# Altium schematic symbol library Schem_lib.SchLib: 221 symbols (part 1 of 2)
Pins are listed as number, name and electrical type; pins without a type are passive.

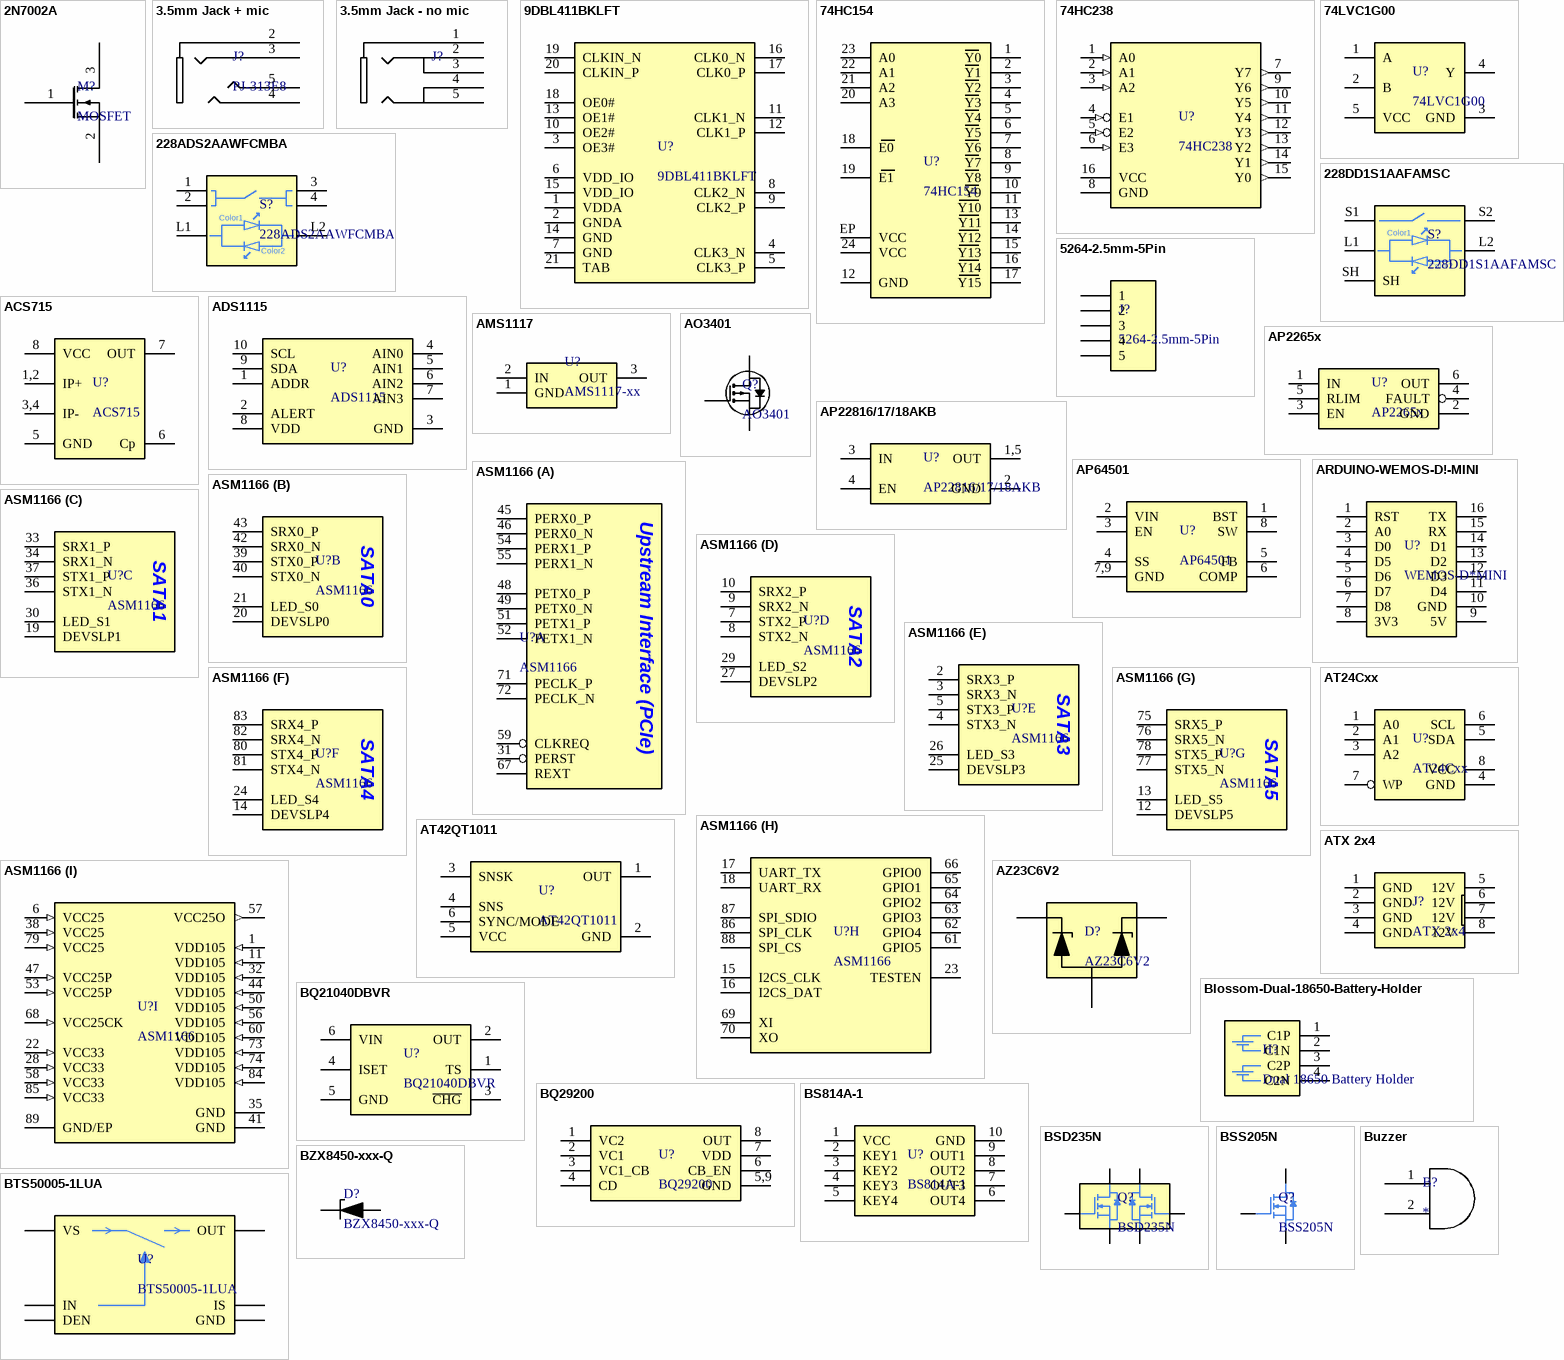
[diagram p0: symbols 2N7002A to BZX8450-xxx-Q]

## 2N7002A
designator M?, comment MOSFET
footprint SOT23
pins: 1, 2, 3

## 3.5mm Jack + mic
designator J?, comment PJ-313E8
footprint PJ-313E8
pins: 2 gg, 3 gg, 4 gg, 5 gg

## 3.5mm Jack - no mic
designator J?  (value not drawn)
footprint Jack 3.5mm
pins: 1 gg, 2 gg, 3 gg, 4 gg, 5 gg

## 9DBL411BKLFT
designator U?
PCIe CLK buffer
footprint QFN50_20T (QFN, 20, 4X4mm, 0.5mm)
pins: 1 VDDA, 2 GNDA, 3 OE3#, 4 CLK3_N, 5 CLK3_P, 6 VDD_IO, 7 GND, 8 CLK2_N, 9 CLK2_P, 10 OE2#, 11 CLK1_N, 12 CLK1_P, 13 OE1#, 14 GND, 15 VDD_IO, 16 CLK0_N, 17 CLK0_P, 18 OE0#, 19 CLKIN_N, 20 CLKIN_P, 21 TAB

## 74HC154
designator U?
4-to-16 Decoder/Demultiplexer
footprint DHVQFN24
pins: 1 Y0, 2 Y1, 3 Y2, 4 Y3, 5 Y4, 6 Y5, 7 Y6, 8 Y7, 9 Y8, 10 Y9, 11 Y10, 12 GND, 13 Y11, 14 Y12, 15 Y13, 16 Y14, 17 Y15, 18 E0, 19 E1, 20 A3, 21 A2, 22 A1, 23 A0, 24 VCC, EP VCC

## 74HC238
designator U?
3 to 8 decoder with 3 enable pins
footprint SO-16
pins: 1 A0 (in), 2 A1 (in), 3 A2 (in), 4 E1 (in), 5 E2 (in), 6 E3 (in), 7 Y7 (out), 8 GND (power), 9 Y6 (out), 10 Y5 (out), 11 Y4 (out), 12 Y3 (out), 13 Y2 (out), 14 Y1 (out), 15 Y0 (out), 16 VCC (power)

## 74LVC1G00
designator U?
SINGLE 2 INPUT POSITIVE NAND GATE
footprint SOT23-5L
pins: 1 A, 2 B, 3 GND, 4 Y, 5 VCC

## 228ADS2AAWFCMBA
designator S?
Tactile Switches 228ADS2AAWF+C style in misty black color with A etching
footprint 228ADS2AAWFCMBA
pins: 1, 2, 3, 4, L1, L2
text: Color1; Color2

## 228DD1S1AAFAMSC
designator S?
Tactile Switches 228DD1S1AAF+A style in misty silver color with C etching
footprint 228DD1S1AAFAMSC
pins: L1, L2, S1, S2, SH
text: Color1; Color2

## 5264-2.5mm-5Pin
designator J?
footprint 5264-2.5mm-5Pin-Vertical
footprint 5264-2.5mm-5Pin-Right
pins: 1, 2, 3, 4, 5

## ACS715
designator U?
Automotive-Grade Linear Current Sensor IC with 2.1 kVRMS Isolation and Enhanced Current Conductor
footprint SOIC-8
pins: 1,2 IP+, 3,4 IP-, 5 GND, 6 Cp, 7 OUT, 8 VCC

## ADS1115
designator U?
16-bit, 860-SPS, 4-channel, delta-sigma ADC with PGA, oscillator, VREF, comparator and I2C
footprint VSSOP-10
pins: 1 ADDR, 2 ALERT, 3 GND, 4 AIN0, 5 AIN1, 6 AIN2, 7 AIN3, 8 VDD, 9 SDA, 10 SCL

## AMS1117
designator U?, comment AMS1117-xx
footprint DPAK_3 (D-PAK (TO-252), 3-Pads, Body 6.2x6.7mm)
pins: 1 GND, 2 IN, 3 OUT

## AO3401
designator Q?
30V 4A P-Channel MOSFET
footprint SOT23
pins: 1 G, 2 S, 3 D

## AP2265x
designator U?
PRECISION ADJUSTABLE CURRENT-LIMITED POWER SWITCHES
footprint SOT26A
pins: 1 IN, 2 GND, 3 EN, 4 FAULT, 5 RLIM, 6 OUT

## AP22816/17/18AKB
designator U?
Single Channel Load Switch SOT-23-5
footprint SOT23-5L
pins: 1,5 OUT, 2 GND, 3 IN, 4 EN

## AP64501
designator U?
3.8V TO 40V INPUT, 5A LOW IQ SYNCHRONOUS BUCK WITH PROGRAMMABLE SOFT-START TIME
footprint SO-8EP
pins: 1 BST, 2 VIN, 3 EN, 4 SS, 5 FB, 6 COMP, 7,9 GND, 8 SW

## ARDUINO-WEMOS-D!-MINI
designator U?, comment WEMOS-D*MINI
Manufacturer_Name: Wemos; Manufacturer_Part_Number: D1 Mini; Datasheet Link: https://wiki.wemos.cc/products:d1:d1_mini
footprint D1-MINI
pins: 1 RST, 2 A0, 3 D0, 4 D5, 5 D6, 6 D7, 7 D8, 8 3V3, 9 5V, 10 GND, 11 D4, 12 D3, 13 D2, 14 D1, 15 RX, 16 TX

## ASM1166
designator U?
PCIe to SATA Host Controller
footprint QFN40-68
part A pins: 31 PERST, 45 PERX0_P, 46 PERX0_N, 48 PETX0_P, 49 PETX0_N, 51 PETX1_P, 52 PETX1_N, 54 PERX1_P, 55 PERX1_N, 59 CLKREQ, 67 REXT "External Reference Resistor with 12.1K to GND for PCIe", 71 PECLK_P, 72 PECLK_N
part B pins: 20 DEVSLP0, 21 LED_S0, 39 STX0_P, 40 STX0_N, 42 SRX0_N, 43 SRX0_P
part C pins: 19 DEVSLP1, 30 LED_S1, 33 SRX1_P, 34 SRX1_N, 36 STX1_N, 37 STX1_P
part D pins: 7 STX2_P, 8 STX2_N, 9 SRX2_N, 10 SRX2_P, 27 DEVSLP2, 29 LED_S2
part E pins: 2 SRX3_P, 3 SRX3_N, 4 STX3_N, 5 STX3_P, 25 DEVSLP3, 26 LED_S3
part F pins: 14 DEVSLP4, 24 LED_S4, 80 STX4_P, 81 STX4_N, 82 SRX4_N, 83 SRX4_P
part G pins: 12 DEVSLP5, 13 LED_S5, 75 SRX5_P, 76 SRX5_N, 77 STX5_N, 78 STX5_P
part H pins: 15 I2CS_CLK, 16 I2CS_DAT, 17 UART_TX, 18 UART_RX, 23 TESTEN, 61 GPIO5, 62 GPIO4, 63 GPIO3, 64 GPIO2, 65 GPIO1, 66 GPIO0, 69 XI, 70 XO, 86 SPI_CLK, 87 SPI_SDIO, 88 SPI_CS
part I pins: 1 VDD105 (in) "Core Logic", 6 VCC25 (in) "PCIe", 11 VDD105 (in) "Core Logic", 22 VCC33 (in) "Digital IO", 28 VCC33 (in) "Digital IO", 32 VDD105 (in) "Core Logic", 35 GND, 38 VCC25 (in) "PCIe", 41 GND, 44 VDD105 (in) "Core Logic", 47 VCC25P (in) "SATA", 50 VDD105 (in) "Core Logic", 53 VCC25P (in) "SATA", 56 VDD105 (in) "Core Logic", 57 VCC25O (out) "LDO Out", 58 VCC33 (in) "Digital IO", 60 VDD105 (in) "Core Logic", 68 VCC25CK (in) "Clocl Gen", 73 VDD105 (in) "Core Logic", 74 VDD105 (in) "Core Logic", 79 VCC25 (in) "PCIe", 84 VDD105 (in) "Core Logic", 85 VCC33 (in) "Digital IO", 89 GND/EP
part A text: Upstream Interface (PCIe)
part B text: SATA0
part C text: SATA1
part D text: SATA2
part E text: SATA3
part F text: SATA4
part G text: SATA5

## AT24Cxx
designator U?
Two-wire Serial / EEPROMs
footprint SOIC-8
pins: 1 A0, 2 A1, 3 A2, 4 GND, 5 SDA, 6 SCL, 7 WP, 8 VCC

## AT42QT1011
designator U?
Touch sensor
footprint SOT23-6L
pins: 1 OUT, 2 GND, 3 SNSK, 4 SNS, 5 VCC, 6 SYNC/MODE

## ATX 2x4
designator J?
footprint ATX_2x4_RA_MOLEX (26013144   Mini-Fit Jr. Header, Dual Row, Right-Angle, with Snap-in Plastic Peg PCB Lock, 8 Circuits, PA Polyamide Nylon 6/6 94V-2, 1.27µm Select Gold (Au) Plating)
footprint ATX_2x4_VERT_MOLEX (26013144   Mini-Fit Jr. Header, Dual Row, Vertical, with Snap-in Plastic Peg PCB Lock, 8 Circuits, PA Polyamide Nylon 6/6 94V-2, 1.27µm Select Gold (Au) Plating)
footprint ATX_2X4_VERT_PEG_TE
pins: 1 GND, 2 GND, 3 GND, 4 GND, 5 12V, 6 12V, 7 12V, 8 12V

## AZ23C6V2
designator D?
6.2V Zener
footprint SOT23
pins: 1, 2, 3

## Blossom-Dual-18650-Battery-Holder
designator H?, comment Dual 18650 Battery Holder
footprint Blossom-1048-Dual-18650-Battery-Holder
pins: 1 C1P, 2 C1N, 3 C2P, 4 C2N

## BQ21040DBVR
designator U?
Battery Management 1-cell 0.8-A Li-ion and Li-polymer battery
footprint SOT23-6L
pins: 1 TS, 2 OUT, 3 ~{CHG}, 4 ISET, 5 GND, 6 VIN

## BQ29200
designator U?
footprint VSON-8pin
pins: 1 VC2, 2 VC1, 3 VC1_CB, 4 CD, 5,9 GND, 6 CB_EN, 7 VDD, 8 OUT

## BS814A-1
designator U?
4-channel capacitive touch driver
footprint MSOP-10
pins: 1 VCC, 2 KEY1, 3 KEY2, 4 KEY3, 5 KEY4, 6 OUT4, 7 OUT3, 8 OUT2, 9 OUT1, 10 GND

## BSD235N
designator Q?
Dual MOSFET N-Channel 20V 950mA
footprint SOT23-6L
pins: 1 S, 2 G, 3 D, 4 S, 5 G, 6 D
1 alternate drawing of the same symbol

## BSS205N
designator Q?
MOSFET N-Channel 20V 2.5A
footprint SOT23
pins: 1 G, 2 S, 3 D

## BTS50005-1LUA
designator U?
57A Power switch with protection and diagnosis
footprint PG-HSOF-8
pins: 1 GND, 2 IS, 3 IN, 4 DEN, 5,6,7,8 OUT, 9 VS

## Buzzer
designator B?
footprint Buzzer-5050
footprint BUZZER-CSPT12A
footprint BUZZER-9x9
pins: 1, 2

## BZX8450-xxx-Q
designator D?
Zener Diodes BZX8450-xxx-Q
footprint SOT23
pins: 1 Anode, 3 Cathode

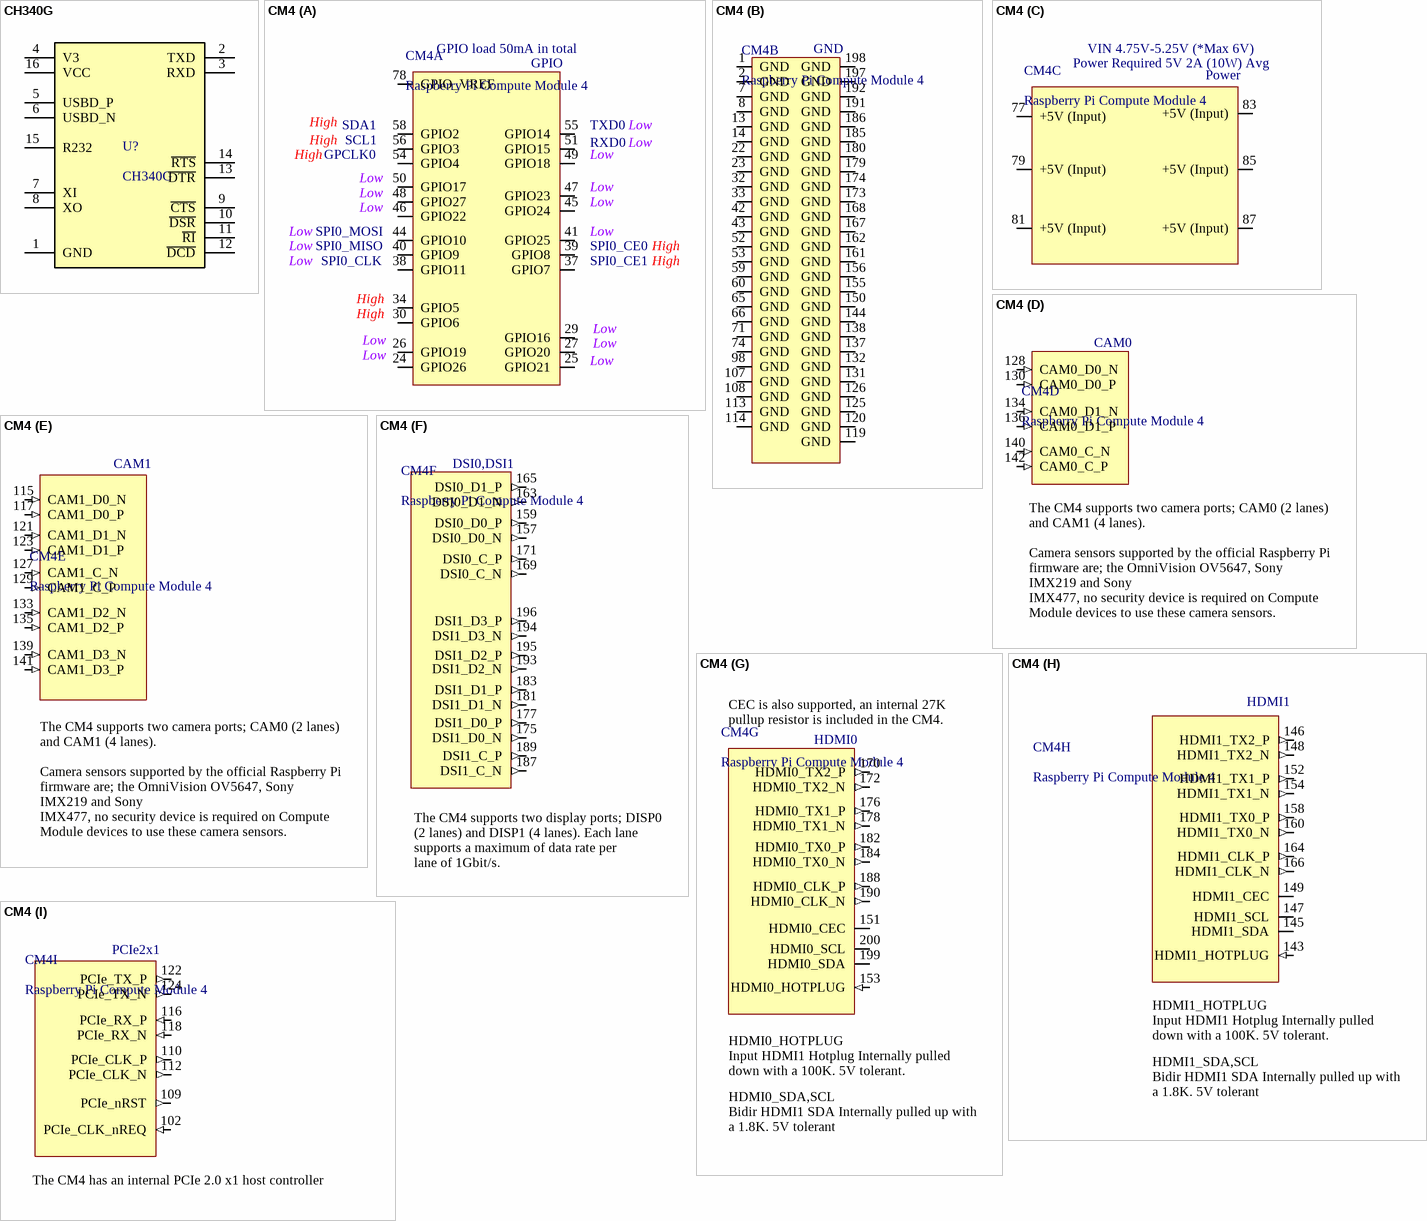
[diagram p1: symbols CH340G to CM4]

## CH340G
designator U?
USB Bus Converter to Serial Port
footprint SOIC-16
pins: 1 GND, 2 TXD, 3 RXD, 4 V3, 5 USBD_P, 6 USBD_N, 7 XI, 8 XO, 9 ~{CTS}, 10 ~{DSR}, 11 ~{RI}, 12 ~{DCD}, 13 ~{DTR}, 14 ~{RTS}, 15 R232, 16 VCC

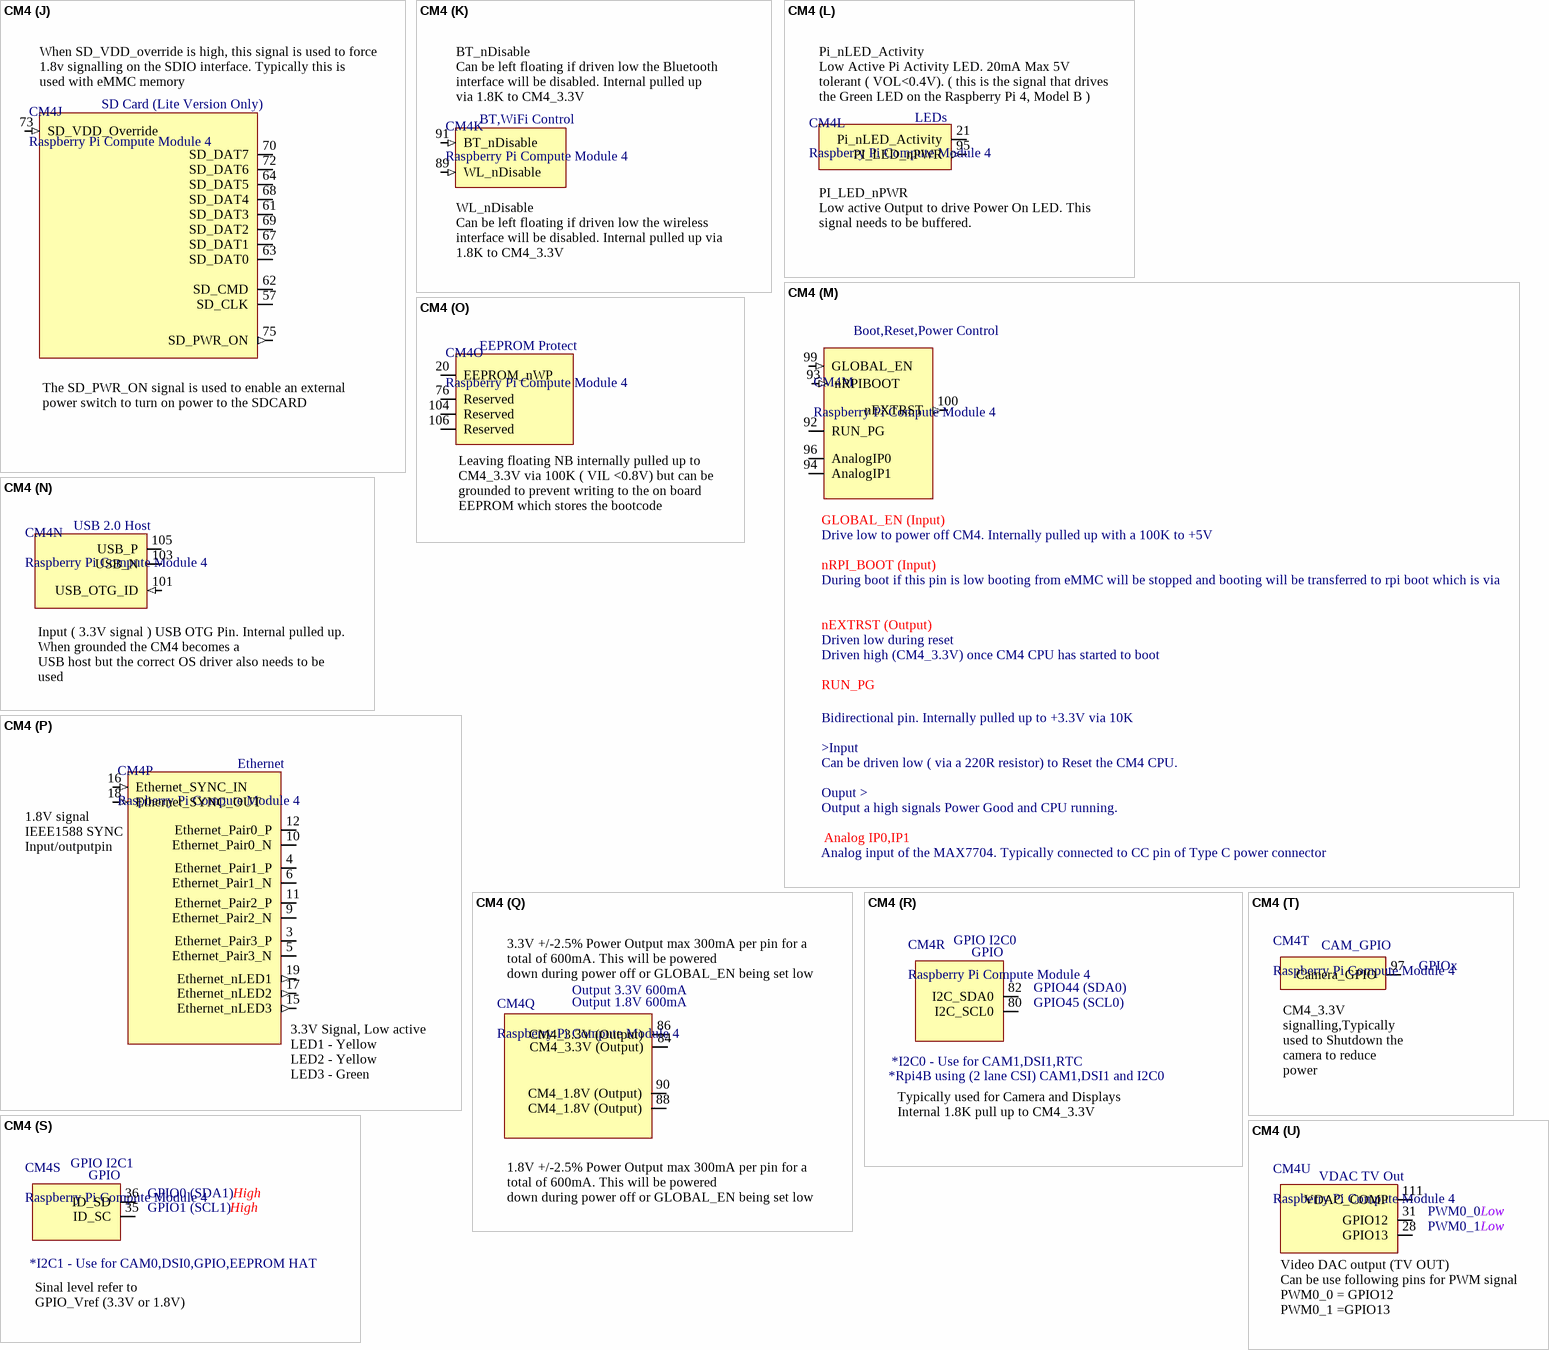
[diagram p2: symbol CM4]

## CM4
designator CM4, comment Raspberry Pi Compute Module 4
Raspberry Pi Compute Module 4 by Amornthep Phunsin
footprint CM4-F40C-100DS-0.4v_1.5mm_0mm (DF40C-100DS-0.4v)
part A pins: 24 GPIO26 "Pin37", 25 GPIO21 "Pin40", 26 GPIO19 "Pin35", 27 GPIO20 "Pin38", 29 GPIO16 "Pin36", 30 GPIO6 "Pin31", 34 GPIO5 "Pin29", 37 GPIO7 "Pin26 SPI0_CE1", 38 GPIO11 "Pin23 SPI0_CLK", 39 GPIO8 "Pin24 SPI0_CE0", 40 GPIO9 "Pin21 SPI0_MISO", 41 GPIO25 "Pin22", 44 GPIO10 "Pin19 SPI0_MOSI", 45 GPIO24 "Pin18", 46 GPIO22 "Pin15", 47 GPIO23 "Pin16", 48 GPIO27 "Pin13", 49 GPIO18 "Pin12", 50 GPIO17 "Pin11", 51 GPIO15 "Pin10 RXD0", 54 GPIO4 "Pin7 GPCLK0", 55 GPIO14 "Pin8 TXD0", 56 GPIO3 "Pin5 SCL1 Internal 1.8K pull up", 58 GPIO2 "Pin3 SDA1 Internal 1.8K pull up", 78 GPIO_VREF (power) "Must be connected to CM4_3.3V ( pins 84 and 86 ) for 3.3V GPIO or CM4_1.8V ( pins 88 and 90) for 1.8V GPIO. This pin cannot be floating or connected to ground"
part B pins: 1 GND (power) "Ground (0V)", 2 GND (power) "Ground (0V)", 7 GND (power) "Ground (0V)", 8 GND (power) "Ground (0V)", 13 GND (power) "Ground (0V)", 14 GND (power) "Ground (0V)", 22 GND (power) "Ground (0V)", 23 GND (power) "Ground (0V)", 32 GND (power) "Ground (0V)", 33 GND (power) "Ground (0V)", 42 GND (power) "Ground (0V)", 43 GND (power) "Ground (0V)", 52 GND (power) "Ground (0V)", 53 GND (power) "Ground (0V)", 59 GND (power) "Ground (0V)", 60 GND (power) "Ground (0V)", 65 GND (power) "Ground (0V)", 66 GND (power) "Ground (0V)", 71 GND (power) "Ground (0V)", 74 GND (power) "Ground (0V)", 98 GND (power) "Ground (0V)", 107 GND (power) "Ground (0V)", 108 GND (power) "Ground (0V)", 113 GND (power) "Ground (0V)", 114 GND (power) "Ground (0V)", 119 GND (power) "Ground (0V)", 120 GND (power) "Ground (0V)", 125 GND (power) "Ground (0V)", 126 GND (power) "Ground (0V)", 131 GND (power) "Ground (0V)", 132 GND (power) "Ground (0V)", 137 GND (power) "Ground (0V)", 138 GND (power) "Ground (0V)", 144 GND (power) "Ground (0V)", 150 GND (power) "Ground (0V)", 155 GND (power) "Ground (0V)", 156 GND (power) "Ground (0V)", 161 GND (power) "Ground (0V)", 162 GND (power) "Ground (0V)", 167 GND (power) "Ground (0V)", 168 GND (power) "Ground (0V)", 173 GND (power) "Ground (0V)", 174 GND (power) "Ground (0V)", 179 GND (power) "Ground (0V)", 180 GND (power) "Ground (0V)", 185 GND (power) "Ground (0V)", 186 GND (power) "Ground (0V)", 191 GND (power) "Ground (0V)", 192 GND (power) "Ground (0V)", 197 GND (power) "Ground (0V)", 198 GND (power) "Ground (0V)"
part C pins: 77 +5V (Input) (power) "4.75V-5.25V Main power input", 79 +5V (Input) (power) "4.75V-5.25V Main power input", 81 +5V (Input) (power) "4.75V-5.25V Main power input", 83 +5V (Input) (power) "4.75V-5.25V Main power input", 85 +5V (Input) (power) "4.75V-5.25V Main power input", 87 +5V (Input) (power) "4.75V-5.25V Main power input"
part D pins: 128 CAM0_D0_N (in) "Input Camera0 D0 Negative", 130 CAM0_D0_P (in) "Input Camera0 D0 Positive", 134 CAM0_D1_N (in) "Input Camera0 D1 Negative", 136 CAM0_D1_P (in) "Input Camera0 D1 Positive", 140 CAM0_C_N (in) "Input Camera0 Clock Negative", 142 CAM0_C_P (in) "Input Camera0 Clock Positive"
part E pins: 115 CAM1_D0_N (in) "Input Camera1 D0 Negative", 117 CAM1_D0_P (in) "Input Camera1 D0 Positive", 121 CAM1_D1_N (in) "Input Camera1 D1 Negative", 123 CAM1_D1_P (in) "Input Camera1 D1 Positive", 127 CAM1_C_N (in) "Input Camera1 Clock Negative", 129 CAM1_C_P (in) "Input Camera1 Clock Positive", 133 CAM1_D2_N (in) "Input Camera1 D2 Negative", 135 CAM1_D2_P (in) "Input Camera1 D2 Positive", 139 CAM1_D3_N (in) "Input Camera1 D3 Negative", 141 CAM1_D3_P (in) "Input Camera1 D3 Positive"
part F pins: 157 DSI0_D0_N (out) "Output Display0 D0 Negative", 159 DSI0_D0_P (out) "Output Display0 D0 Positive", 163 DSI0_D1_N (out) "Output Display0 D1 Negative", 165 DSI0_D1_P (out) "Output Display0 D1 Positive", 169 DSI0_C_N (out) "Output Display0 Clock Negative", 171 DSI0_C_P (out) "Output Display0 Clock Positive", 175 DSI1_D0_N (out) "Output Display1 D0 Negative", 177 DSI1_D0_P (out) "Output Display1 D0 Positive", 181 DSI1_D1_N (out) "Output Display1 D1 Negative", 183 DSI1_D1_P (out) "Output Display1 D1 Positive", 187 DSI1_C_N (out) "Output Display1 Clock Negative", 189 DSI1_C_P (out) "Output Display1 Clock Positive", 193 DSI1_D2_N (out) "Output Display1 D2 Negative", 194 DSI1_D3_N (out) "Output Display1 D3 Negative", 195 DSI1_D2_P (out) "Output Display1 D2 Positive", 196 DSI1_D3_P (out) "Output Display1 D3 Positive"
part G pins: 151 HDMI0_CEC (oc) "Input HDMI0 CEC Internally pulled up with a 27K. 5V tolerant (It can be connected directly to a HDMI connector a small amount of ESD protection is provided on the CM4 by an on board HDMI05-CL02F3)", 153 HDMI0_HOTPLUG (in) "Input HDMI0 Hotplug Internally pulled down 100K. 5V tolerant. (It can be connected directly to a HDMI connector a small amount of ESD protection is provided on the CM4 by an on board HDMI05-CL02F3)", 170 HDMI0_TX2_P (out) "Output HDMI0 TX2 Positive", 172 HDMI0_TX2_N (out) "Output HDMI0 TX2 Negative", 176 HDMI0_TX1_P (out) "Output HDMI0 TX1 Positive", 178 HDMI0_TX1_N (out) "Output HDMI0 TX1 Negative", 182 HDMI0_TX0_P (out) "Output HDMI0 TX0 Positive", 184 HDMI0_TX0_N (out) "Output HDMI0 TX0 Negative", 188 HDMI0_CLK_P (out) "Output HDMI0 Clock Positive", 190 HDMI0_CLK_N (out) "Output HDMI0 Clock Negative", 199 HDMI0_SDA (io) "Bidir HDMI0 SDA Internally pulled up with a 1.8K. 5V tolerant. (It can be connected directly to a HDMI connector a small amount of ESD protection is provided on the CM4 by an on board HDMI05-CL02F3)", 200 HDMI0_SCL (oc) "Bidir HDMI0 SCL Internally pulled up with a 1.8K. 5V tolerant. (It can be connected directly to a HDMI connector a small amount of ESD protection is provided on the CM4 by an on board HDMI05-CL02F3)"
part H pins: 143 HDMI1_HOTPLUG (in) "Input HDMI1 Hotplug Internally pulled down with a 100K. 5V tolerant. (It can be connected directly to a HDMI connector a small amount of ESD protection is provided on the CM4 by an on board HDMI05-CL02F3)", 145 HDMI1_SDA (io) "Bidir HDMI1 SDA Internally pulled up with a 1.8K. 5V tolerant. (It can be connected directly to a HDMI connector a small amount of ESD protection is provided on the CM4 by an on board HDMI05-CL02F3)", 146 HDMI1_TX2_P (out) "Output HDMI1 TX2 Positive", 147 HDMI1_SCL (oc) "Input HDMI1 SCL Internally pulled up with a 1.8K. 5V tolerant. (It can be connected directly to a HDMI connector a small amount of ESD protection is provided on the CM4 by an on board HDMI05-CL02F3)", 148 HDMI1_TX2_N (out) "Output HDMI1 TX2 Negative", 149 HDMI1_CEC (oc) "Input HDMI1 CEC Internally pulled up with a 27K. 5V tolerant. (It can be connected directly to a HDMI connector a small amount of ESD protection is provided on the CM4 by an on board HDMI05-CL02F3)", 152 HDMI1_TX1_P (out) "Output HDMI1 TX1 Positive", 154 HDMI1_TX1_N (out) "Output HDMI1 TX1 Negative", 158 HDMI1_TX0_P (out) "Output HDMI1 TX0 Positive", 160 HDMI1_TX0_N (out) "Output HDMI1 TX0 Negative", 164 HDMI1_CLK_P (out) "Output HDMI1 Clock Positive", 166 HDMI1_CLK_N (out) "Output HDMI1 Clock Negative"
part I pins: 102 PCIe_CLK_nREQ (in) "Input ( 3.3V signal) PCIe Clock request pin (low to request PCI clock). Internal pulled up", 109 PCIe_nRST (out) "Output (+3.3V signal) PCIe Reset Low active", 110 PCIe_CLK_P (out) "PCIe Clock Out Positive (100MHz) NB AC coupling Capacitor Included on CM4", 112 PCIe_CLK_N (out) "PCIe Clock Out Negative (100MHz) NB AC coupling Capacitor Included on CM4", 116 PCIe_RX_P (in) "Input PCIe GEN 2 RX Positive NB External AC coupling Capacitor required", 118 PCIe_RX_N (in) "Input PCIe GEN 2 RX Negative NB External AC coupling Capacitor required", 122 PCIe_TX_P (out) "Output PCIe GEN 2 TX Positive NB AC coupling Capacitor Included on CM4", 124 PCIe_TX_N (out) "Output PCIe GEN 2 TX Positive NB AC coupling Capacitor Included on CM4"
part J pins: 57 SD_CLK "SDCARD Clock signal (only available on CM4Lite)", 61 SD_DAT3 "SDCARD/eMMC Data3 signal (only available on CM4Lite)", 62 SD_CMD "SDCARD/eMMC Command signal (only available on CM4Lite)", 63 SD_DAT0 "SDCARD/eMMC Data0 signal (only available on CM4Lite)", 64 SD_DAT5 "SDCARD/eMMC Data5 signal (only available on CM4Lite)", 67 SD_DAT1 "SDCARD/eMMC Data1 signal (only available on CM4Lite)", 68 SD_DAT4 "SDCARD/eMMC Data4 signal (only available on CM4Lite)", 69 SD_DAT2 "SDCARD/eMMC Data2 signal (only available on CM4Lite)", 70 SD_DAT7 "SDCARD/eMMC Data7 signal (only available on CM4Lite)", 72 SD_DAT6 "SDCARD/eMMC Data6 signal (only available on CM4Lite)", 73 SD_VDD_Override (in) "Force SDCARD/eMMC interface to 1.8V signalling if set to 3.3V, otherwise leave unconnected. Typically only used if external eMMC is connected", 75 SD_PWR_ON (out) "Output to Power switch for SDCARD. CM4 sets this pin High (3.3V) to signal that Power to the SDCARD should be turned on. If booting from the SDCARD is required then a pullup should be fitted (only available on CM4Lite)"
part K pins: 89 WL_nDisable (in) "Can be left floating if driven low the wireless interface will be disabled. Internal pulled up via 1.8K to CM4_3.3V", 91 BT_nDisable (in) "Can be left floating if driven low the Bluetooth interface will be disabled. Internal pulled up via 1.8K to CM4_3.3V"
part L pins: 21 Pi_nLED_Activity (oc) "Low Active Pi Activity LED. 20mA Max 5V tolerant ( VOL<0.4V). ( this is the signal that drives the Green LED on the Raspberry Pi 4, Model B )", 95 PI_LED_nPWR (out) "Low active Output to drive Power On LED. This signal needs to be buffered."
part M pins: 92 RUN_PG "Bidirectional pin. Can be driven low ( via a 220R resistor) to Reset the CM4 CPU. As an Output a high signals Power Good and CPU running. Internally pulled up to +3.3V via 10K", 93 nRPIBOOT (in) "A low on this pin force booting from an RPI server ( e.g PC or a Raspberry Pi)  if not used leave floating. Internally pulled via 10K to +3.3V", 94 AnalogIP1 "Analogue input of the MAX7704. Typically connected to CC pin of Type C power connector", 96 AnalogIP0 "Analogue input of the MAX7704. Typically connected to CC pin of Type C power connector", 99 GLOBAL_EN (in) "Input. Drive low to power off CM4. Internally pulled up with a 100K to +5V", 100 nEXTRST (out) "Output Driven low during reset Driven high (CM4_3.3V) once CM4 CPU has started to boot"
part N pins: 101 USB_OTG_ID (in) "Input ( 3.3V signal ) USB OTG Pin. Internal pulled up. When grounded the CM4 becomes a USB host but the correct OS driver also needs to be used", 103 USB_N "USB D-", 105 USB_P "USB D+"
part O pins: 20 EEPROM_nWP "Leaving floating NB internally pulled up to CM4_3.3V via 100K ( VIL <0.8V) but can be grounded to prevent writing to the on board EEPROM which stores the bootcode", 76 Reserved "Do not Connect anything to this pin.", 104 Reserved "Do not Connect anything to this pin.", 106 Reserved "Do not Connect anything to this pin."
part P pins: 3 Ethernet_Pair3_P "Ethernet Pair 3 Positive ( connect to Transformer or MagJack)", 4 Ethernet_Pair1_P "Ethernet Pair 1 Positive ( connect to Transformer or MagJack)", 5 Ethernet_Pair3_N "Ethernet Pair 3 Negative ( connect to Transformer or MagJack)", 6 Ethernet_Pair1_N "Ethernet Pair 1 Negative ( connect to Transformer or MagJack)", 9 Ethernet_Pair2_N "Ethernet Pair 2 Negative ( connect to Transformer or MagJack)", 10 Ethernet_Pair0_N "Ethernet Pair 0 Negative ( connect to Transformer or MagJack)", 11 Ethernet_Pair2_P "Ethernet Pair 2 Positive ( connect to Transformer or MagJack)", 12 Ethernet_Pair0_P "Ethernet Pair 0 Positive ( connect to Transformer or MagJack)", 15 Ethernet_nLED3 (out) "Low Active Ethernet Activity indicator ( 3.3V signal) Typically a Green LED is connected to this pin: IOL = 8mA @ VOL< 0.4V", 16 Ethernet_SYNC_IN (in) "IEEE1588 SYNC Input pin ( 1.8V signal : IOL = 8mA @ VOL< 0.4V )", 17 Ethernet_nLED2 (out) "Low Active Ethernet speed indicator ( 3.3V signal) Typically a Yellow LED is connected to this pin. A low State indicates the 1Gbit or 100Mbit Link : IOL = 8mA @ VOL< 0.4V", 18 Ethernet_SYNC_OUT (in) "IEEE1588 SYNC Output pin ( 1.8V signal : IOL = 8mA @ VOL< 0.4V )", 19 Ethernet_nLED1 (out) "Low Active Ethernet speed indicator ( 3.3V signal) Typically a Yellow LED is connected to this pin. A low State indicates the 1Gbit or 10Mbit Link : IOL = 8mA @ VOL< 0.4V"
part Q pins: 84 CM4_3.3V (Output) (power) "3.3V +/-2.5% Power Output max 300mA per pin for a total of 600mA. This will be powered down during power off or GLOBAL_EN being set low", 86 CM4_3.3V (Output) (power) "3.3V +/-2.5% Power Output max 300mA per pin for a total of 600mA. This will be powered down during power off or GLOBAL_EN being set low", 88 CM4_1.8V (Output) (power) "1.8V +/-2.5% Power Output max 300mA per pin for a total of 600mA. This will be powered down during power off or GLOBAL_EN being set low", 90 CM4_1.8V (Output) (power) "1.8V +/-2.5% Power Output max 300mA per pin for a total of 600mA. This will be powered down during power off or GLOBAL_EN being set low"
part R pins: 80 I2C_SCL0 "IIC Clock pin ( Raspberry Pi GPIO45) Typically used for Camera and Displays Internal 1.8K pull up to CM4_3.3V", 82 I2C_SDA0 "IIC Data pin ( Raspberry Pi GPIO44 ) Typically used for Camera and Displays Internal 1.8K pull up to CM4_3.3V"
part S pins: 35 ID_SC "Pin28 GPIO1 SCL0", 36 ID_SD "Pin27 GPIO0 SDA0"
part T pins: 97 Camera_GPIO "Typically used to Shutdown the camera to reduce power. Reassigning this pin to another function isn’t recommended. CM4_3.3V signalling"
part U pins: 28 GPIO13 "Pin33 PWM1", 31 GPIO12 "Pin32 PWM0", 111 VDAC_COMP "Video DAC output (TV OUT)"
part A text: GPIO load 50mA in total; GPIO; High; SDA1; TXD0; Low; SCL1; RXD0; GPCLK0; SPI0_MOSI; SPI0_MISO; SPI0_CE0; SPI0_CLK; SPI0_CE1; by Amornthep Phunsin
part C text: VIN 4.75V-5.25V (*Max 6V); Power Required 5V 2A (10W) Avg; Power; by Amornthep Phunsin
part D text: CAM0; The CM4 supports two camera ports; CAM0 (2 lanes) and CAM1 (4 lanes). / Camera sensors supported by the official Raspberry Pi firmware are; the OmniVision OV5647, Sony IMX219 and Sony / IMX477, no security device is required on Compute Module devices to use these camera sensors.
part E text: CAM1; The CM4 supports two camera ports; CAM0 (2 lanes) and CAM1 (4 lanes). / Camera sensors supported by the official Raspberry Pi firmware are; the OmniVision OV5647, Sony IMX219 and Sony / IMX477, no security device is required on Compute Module devices to use these camera sensors.
part F text: DSI0,DSI1; The CM4 supports two display ports; DISP0 (2 lanes) and DISP1 (4 lanes). Each lane supports a maximum of data rate per / lane of 1Gbit/s.
part G text: HDMI0; CEC is also supported, an internal 27K pullup resistor is included in the CM4.; HDMI0_HOTPLUG / Input HDMI1 Hotplug Internally pulled down with a 100K. 5V tolerant.; HDMI0_SDA,SCL / Bidir HDMI1 SDA Internally pulled up with a 1.8K. 5V tolerant
part H text: HDMI1; HDMI1_HOTPLUG / Input HDMI1 Hotplug Internally pulled down with a 100K. 5V tolerant.; HDMI1_SDA,SCL / Bidir HDMI1 SDA Internally pulled up with a 1.8K. 5V tolerant
part I text: PCIe2x1; The CM4 has an internal PCIe 2.0 x1 host controller
part J text: When SD_VDD_override is high, this signal is used to force 1.8v signalling on the SDIO interface. Typically this is / used with eMMC memory; SD Card (Lite Version Only); by Amornthep Phunsin; The SD_PWR_ON signal is used to enable an external power switch to turn on power to the SDCARD
part K text: BT_nDisable / Can be left floating if driven low the Bluetooth interface will be disabled. Internal pulled up / via 1.8K to CM4_3.3V; BT,WiFi Control; WL_nDisable / Can be left floating if driven low the wireless interface will be disabled. Internal pulled up via / 1.8K to CM4_3.3V
part L text: Pi_nLED_Activity / Low Active Pi Activity LED. 20mA Max 5V tolerant ( VOL<0.4V). ( this is the signal that drives / the Green LED on the Raspberry Pi 4, Model B ); LEDs; PI_LED_nPWR / Low active Output to drive Power On LED. This signal needs to be buffered.
part M text: Boot,Reset,Power Control; GLOBAL_EN (Input); Drive low to power off CM4. Internally pulled up with a 100K to +5V; nRPI_BOOT (Input); During boot if this pin is low booting from eMMC will be stopped and booting will be transferred to rpi boot which is via; nEXTRST (Output); Driven low during reset; Driven high (CM4_3.3V) once CM4 CPU has started to boot; Bidirectional pin. Internally pulled up to +3.3V via 10K / >Input / Can be driven low ( via a 220R resistor) to Reset the CM4 CPU. / Ouput > / Output a high signals Power Good and CPU running.; Analog IP0,IP1; Analog input of the MAX7704. Typically connected to CC pin of Type C power connector
part N text: USB 2.0 Host; Input ( 3.3V signal ) USB OTG Pin. Internal pulled up. When grounded the CM4 becomes a / USB host but the correct OS driver also needs to be used
part O text: EEPROM Protect; Leaving floating NB internally pulled up to CM4_3.3V via 100K ( VIL <0.8V) but can be / grounded to prevent writing to the on board EEPROM which stores the bootcode
part P text: Ethernet; 1.8V signal / IEEE1588 SYNC Input/outputpin; by Amornthep Phunsin; 3.3V Signal, Low active / LED1 - Yellow / LED2 - Yellow / LED3 - Green
part Q text: 3.3V +/-2.5% Power Output max 300mA per pin for a total of 600mA. This will be powered / down during power off or GLOBAL_EN being set low; Output 3.3V 600mA; Output 1.8V 600mA; 1.8V +/-2.5% Power Output max 300mA per pin for a total of 600mA. This will be powered / down during power off or GLOBAL_EN being set low
part R text: GPIO I2C0; GPIO; GPIO44 (SDA0); GPIO45 (SCL0); *I2C0 - Use for CAM1,DSI1,RTC; *Rpi4B using (2 lane CSI) CAM1,DSI1 and I2C0; Typically used for Camera and Displays Internal 1.8K pull up to CM4_3.3V
part S text: GPIO I2C1; GPIO; GPIO0 (SDA1); High; GPIO1 (SCL1); *I2C1 - Use for CAM0,DSI0,GPIO,EEPROM HAT; Sinal level refer to  GPIO_Vref (3.3V or 1.8V)
part T text: CAM_GPIO; GPIOx; CM4_3.3V signalling,Typically used to Shutdown the camera to reduce power
part U text: VDAC TV Out; PWM0_0; Low; PWM0_1; Video DAC output (TV OUT) / Can be use following pins for PWM signal / PWM0_0 = GPIO12 / PWM0_1 =GPIO13

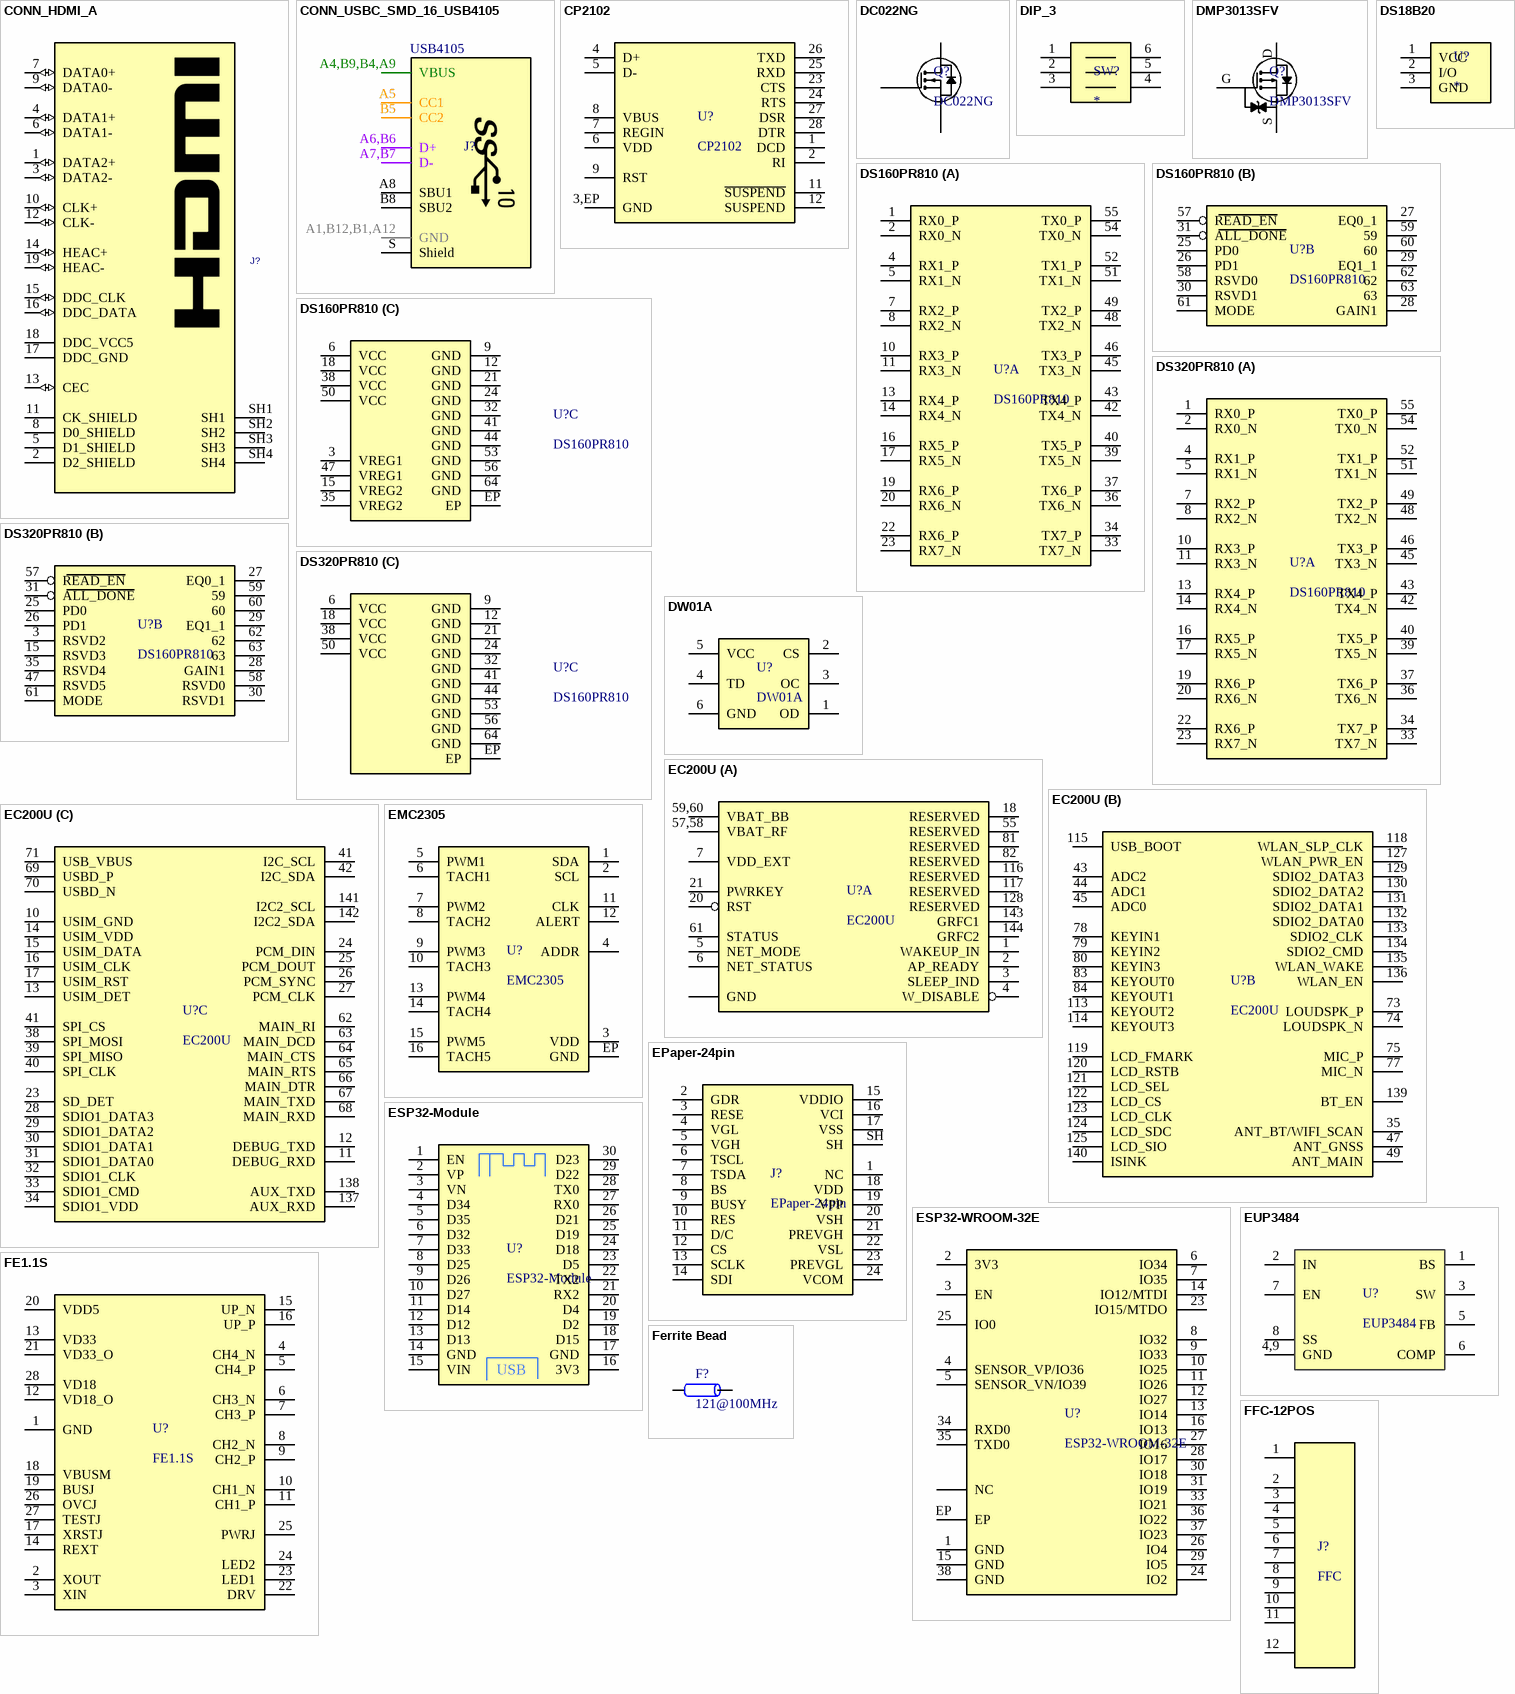
[diagram p3: symbols CONN_HDMI_A to FFC-12POS]

## CONN_HDMI_A
designator J?  (value not drawn)
CONN, HDMI, Receptacle, TYPE A, 19P, RIGH-ANGLE; MANF: Molex, WURTH; MANF_P#: 208658-1051, 47151-0001, 500254-1927; PARAM: Receptacle, 19P, RIGH-ANGLE; MANF_P#2: 685119134923; PRICE: 2.57$
footprint HDMI_A (CONN, HDMI, TYPE A, 19PIN)
pins: 1 DATA2+ (io), 2 D2_SHIELD, 3 DATA2- (io), 4 DATA1+ (io), 5 D1_SHIELD, 6 DATA1- (io), 7 DATA0+ (io), 8 D0_SHIELD, 9 DATA0- (io), 10 CLK+ (io), 11 CK_SHIELD, 12 CLK- (io), 13 CEC (io), 14 HEAC+ (io), 15 DDC_CLK (io), 16 DDC_DATA (io), 17 DDC_GND, 18 DDC_VCC5, 19 HEAC- (io), SH1, SH2, SH3, SH4

## CONN_USBC_SMD_16_USB4105
designator J?, comment USB4105
CONN, USB, Type C; MANF: GCT; MANF_P#: USB4105-GF-A; PARAM: 5A; Price: 1.5$; Value: USB4105
footprint USB-TYPE-C-STAND-TH (16PLC-H10.0)
footprint USBC_SMD_16_USB4105 (CONN, USB, Type C, USB4105, popular*); pin to pad A1,B12,B1,A12>A1B12+B1A12 A4,B9,B4,A9>A4B9+B4A9 S>SH1+SH2+SH3+SH4
footprint UJ20-C-V-C-1-SMT
pins: A1,B12,B1,A12 GND, A4,B9,B4,A9 VBUS, A5 CC1, A6,B6 D+, A7,B7 D-, A8 SBU1, B5 CC2, B8 SBU2, S Shield
1 alternate drawing of the same symbol

## CP2102
designator U?
USB to UART Bridge
footprint QFN50-28-E
pins: 1 DCD, 2 RI, 3,EP GND, 4 D+, 5 D-, 6 VDD, 7 REGIN, 8 VBUS, 9 RST, 11 ~{SUSPEND}, 12 SUSPEND, 23 CTS, 24 RTS, 25 RXD, 26 TXD, 27 DSR, 28 DTR

## DC022NG
designator Q?
N-Channel 30V 30A MOSFET
footprint DPAK_3 (D-PAK (TO-252), 3-Pads, Body 6.2x6.7mm)
pins: 1 G, 2 S, 3 D

## DIP_3
designator SW?
footprint DIP_3
pins: 1 (oe), 2 (oe), 3 (oe), 4 (oe), 5 (oe), 6 (oe)

## DMP3013SFV
designator Q?
footprint POWERDI3333-8
pins: D, G, S

## DS18B20
designator U?
footprint TO-92
pins: 1 VCC, 2 I/O, 3 GND

## DS160PR810
designator U?
PCIe® 4.0, 16 Gbps, 8-channel linear redriver
footprint WQFN-64
part A pins: 1 RX0_P, 2 RX0_N, 4 RX1_P, 5 RX1_N, 7 RX2_P, 8 RX2_N, 10 RX3_P, 11 RX3_N, 13 RX4_P, 14 RX4_N, 16 RX5_P, 17 RX5_N, 19 RX6_P, 20 RX6_N, 22 RX6_P, 23 RX7_N, 33 TX7_N, 34 TX7_P, 36 TX6_N, 37 TX6_P, 39 TX5_N, 40 TX5_P, 42 TX4_N, 43 TX4_P, 45 TX3_N, 46 TX3_P, 48 TX2_N, 49 TX2_P, 51 TX1_N, 52 TX1_P, 54 TX0_N, 55 TX0_P
part B pins: 25 PD0, 26 PD1, 27 EQ0_1, 28 GAIN1, 29 EQ1_1, 30 RSVD1, 31 ALL_DONE, 57 READ_EN, 58 RSVD0, 59, 60, 61 MODE, 62, 63
part C pins: 3 VREG1, 6 VCC, 9 GND, 12 GND, 15 VREG2, 18 VCC, 21 GND, 24 GND, 32 GND, 35 VREG2, 38 VCC, 41 GND, 44 GND, 47 VREG1, 50 VCC, 53 GND, 56 GND, 64 GND, EP

## DS320PR810
designator U?, comment DS160PR810
PCIe® 5.0, 32 Gbps, 8-channel linear redriver
footprint WQFN-64
part A pins: 1 RX0_P, 2 RX0_N, 4 RX1_P, 5 RX1_N, 7 RX2_P, 8 RX2_N, 10 RX3_P, 11 RX3_N, 13 RX4_P, 14 RX4_N, 16 RX5_P, 17 RX5_N, 19 RX6_P, 20 RX6_N, 22 RX6_P, 23 RX7_N, 33 TX7_N, 34 TX7_P, 36 TX6_N, 37 TX6_P, 39 TX5_N, 40 TX5_P, 42 TX4_N, 43 TX4_P, 45 TX3_N, 46 TX3_P, 48 TX2_N, 49 TX2_P, 51 TX1_N, 52 TX1_P, 54 TX0_N, 55 TX0_P
part B pins: 3 RSVD2, 15 RSVD3, 25 PD0, 26 PD1, 27 EQ0_1, 28 GAIN1, 29 EQ1_1, 30 RSVD1, 31 ALL_DONE, 35 RSVD4, 47 RSVD5, 57 READ_EN, 58 RSVD0, 59, 60, 61 MODE, 62, 63
part C pins: 6 VCC, 9 GND, 12 GND, 18 VCC, 21 GND, 24 GND, 32 GND, 38 VCC, 41 GND, 44 GND, 50 VCC, 53 GND, 56 GND, 64 GND, EP

## DW01A
designator U?
One Cell Lithium-ion/Polymer Battery Protection IC
footprint SOT23-6L
pins: 1 OD, 2 CS, 3 OC, 4 TD, 5 VCC, 6 GND

## EC200U
designator U?
4G LTE Cat 1 bis module
footprint EC200U
part A pins: 1 WAKEUP_IN, 2 AP_READY, 3 SLEEP_IND, 4 W_DISABLE, 5 NET_MODE, 6 NET_STATUS, 7 VDD_EXT, 8,9,19,22,36,46,48,51,52,53,54,56,72,76,85,86,87,88,89,90,91,92,93,94,95,96,97,98,99,100,101,102,103,104,105,106,107,108,109,110,111,112 GND, 18 RESERVED, 20 RST, 21 PWRKEY, 55 RESERVED, 57,58 VBAT_RF, 59,60 VBAT_BB, 61 STATUS, 81 RESERVED, 82 RESERVED, 116 RESERVED, 117 RESERVED, 128 RESERVED, 143 GRFC1, 144 GRFC2
part B pins: 35 ANT_BT/WIFI_SCAN, 43 ADC2, 44 ADC1, 45 ADC0, 47 ANT_GNSS, 49 ANT_MAIN, 73 LOUDSPK_P, 74 LOUDSPK_N, 75 MIC_P, 77 MIC_N, 78 KEYIN1, 79 KEYIN2, 80 KEYIN3, 83 KEYOUT0, 84 KEYOUT1, 113 KEYOUT2, 114 KEYOUT3, 115 USB_BOOT, 118 WLAN_SLP_CLK, 119 LCD_FMARK, 120 LCD_RSTB, 121 LCD_SEL, 122 LCD_CS, 123 LCD_CLK, 124 LCD_SDC, 125 LCD_SIO, 127 WLAN_PWR_EN, 129 SDIO2_DATA3, 130 SDIO2_DATA2, 131 SDIO2_DATA1, 132 SDIO2_DATA0, 133 SDIO2_CLK, 134 SDIO2_CMD, 135 WLAN_WAKE, 136 WLAN_EN, 139 BT_EN, 140 ISINK
part C pins: 10 USIM_GND, 11 DEBUG_RXD, 12 DEBUG_TXD, 13 USIM_DET, 14 USIM_VDD, 15 USIM_DATA, 16 USIM_CLK, 17 USIM_RST, 23 SD_DET, 24 PCM_DIN, 25 PCM_DOUT, 26 PCM_SYNC, 27 PCM_CLK, 28 SDIO1_DATA3, 29 SDIO1_DATA2, 30 SDIO1_DATA1, 31 SDIO1_DATA0, 32 SDIO1_CLK, 33 SDIO1_CMD, 34 SDIO1_VDD, 38 SPI_MOSI, 39 SPI_MISO, 40 SPI_CLK, 41 I2C_SCL, 41 SPI_CS, 42 I2C_SDA, 62 MAIN_RI, 63 MAIN_DCD, 64 MAIN_CTS, 65 MAIN_RTS, 66 MAIN_DTR, 67 MAIN_TXD, 68 MAIN_RXD, 69 USBD_P, 70 USBD_N, 71 USB_VBUS, 137 AUX_RXD, 138 AUX_TXD, 141 I2C2_SCL, 142 I2C2_SDA

## EMC2305
designator U?
5-Channel RPM-Based PWM Fan Controller
footprint QFN-16T-4X4 (QFN, 16, 4X4mm, 0.5mm); pin to pad EP>17
pins: 1 SDA "Core Logic", 2 SCL "Core Logic", 3 VDD "Core Logic", 4 ADDR "Core Logic", 5 PWM1 "Core Logic", 6 TACH1 "Core Logic", 7 PWM2 "Core Logic", 8 TACH2 "Core Logic", 9 PWM3 "Core Logic", 10 TACH3 "Core Logic", 11 CLK "Core Logic", 12 ALERT "Core Logic", 13 PWM4 "Core Logic", 14 TACH4 "Core Logic", 15 PWM5 "Core Logic", 16 TACH5 "Core Logic", EP GND "Core Logic"

## EPaper-24pin
designator J?
E-Paper 24 pin
footprint FPC24-0.5mm
pins: 1 NC, 2 GDR, 3 RESE, 4 VGL, 5 VGH, 6 TSCL, 7 TSDA, 8 BS, 9 BUSY, 10 RES, 11 D/C, 12 CS, 13 SCLK, 14 SDI, 15 VDDIO, 16 VCI, 17 VSS, 18 VDD, 19 VPP, 20 VSH, 21 PREVGH, 22 VSL, 23 PREVGL, 24 VCOM, SH

## ESP32-Module
designator U?
ESP32 Module
footprint ESP32-MODULE
pins: 1 EN, 2 VP, 3 VN, 4 D34, 5 D35, 6 D32, 7 D33, 8 D25, 9 D26, 10 D27, 11 D14, 12 D12, 13 D13, 14 GND, 15 VIN, 16 3V3, 17 GND, 18 D15, 19 D2, 20 D4, 21 RX2, 22 TX2, 23 D5, 24 D18, 25 D19, 26 D21, 27 RX0, 28 TX0, 29 D22, 30 D23
text: USB

## ESP32-WROOM-32E
designator U?
footprint ESP32-WROOM-32E
pins: 1 GND, 2 3V3, 3 EN, 4 SENSOR_VP/IO36, 5 SENSOR_VN/IO39, 6 IO34, 7 IO35, 8 IO32, 9 IO33, 10 IO25, 11 IO26, 12 IO27, 13 IO14, 14 IO12/MTDI, 15 GND, 16 IO13, 17,18,19,20,21,22,32 NC, 23 IO15/MTDO, 24 IO2, 25 IO0, 26 IO4, 27 IO16, 28 IO17, 29 IO5, 30 IO18, 31 IO19, 33 IO21, 34 RXD0, 35 TXD0, 36 IO22, 37 IO23, 38 GND, EP

## EUP3484
designator U?
Buck regulator capable of driving 3A continuous load current
footprint SO-8EP
pins: 1 BS, 2 IN, 3 SW, 4,9 GND, 5 FB, 6 COMP, 7 EN, 8 SS

## FE1.1S
designator U?
4 Channel USB2.0 Hub
footprint SSOP-28 (SSOP, 28-Leads, 9.9x3.9mm, Pitch 0.635mm)
pins: 1 GND, 2 XOUT, 3 XIN, 4 CH4_N, 5 CH4_P, 6 CH3_N, 7 CH3_P, 8 CH2_N, 9 CH2_P, 10 CH1_N, 11 CH1_P, 12 VD18_O, 13 VD33, 14 REXT, 15 UP_N, 16 UP_P, 17 XRSTJ, 18 VBUSM, 19 BUSJ, 20 VDD5, 21 VD33_O, 22 DRV, 23 LED1, 24 LED2, 25 PWRJ, 26 OVCJ, 27 TESTJ, 28 VD18

## Ferrite Bead
designator F?, comment 121@100MHz
Ferrite Bead
footprint Ferrite-0805
footprint Ferrite-1206
footprint FERRITE-0603
pins: 1 67, 2 66

## FFC-12POS
designator J?, comment FFC
footprint FFC-12POS-non-standard
pins: 1, 2, 3, 4, 5, 6, 7, 8, 9, 10, 11, 12

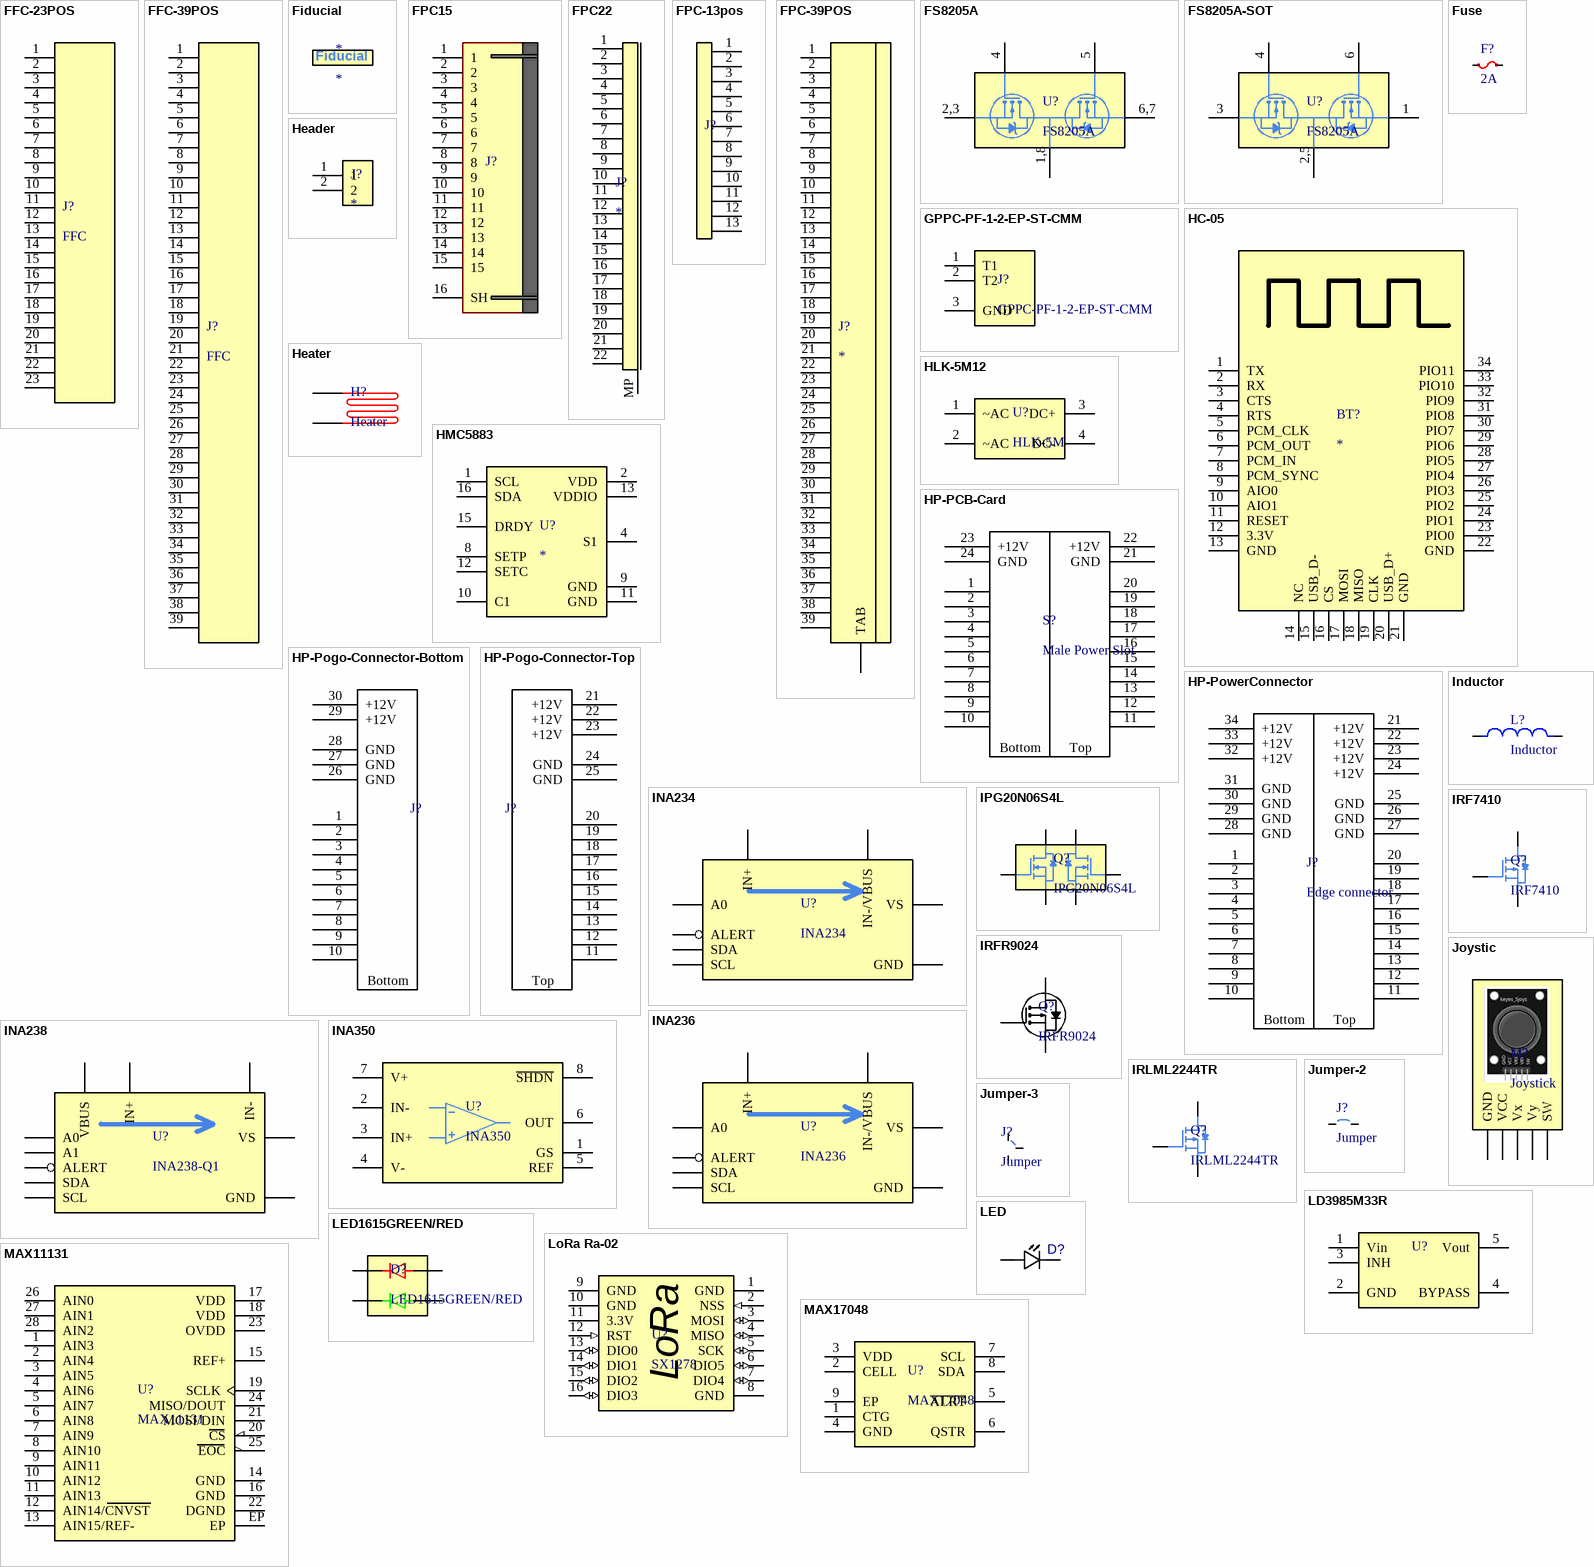
[diagram p4: symbols FFC-23POS to MAX17048]

## FFC-23POS
designator J?, comment FFC
footprint FFC-23pos-0.3mm
pins: 1, 2, 3, 4, 5, 6, 7, 8, 9, 10, 11, 12, 13, 14, 15, 16, 17, 18, 19, 20, 21, 22, 23

## FFC-39POS
designator J?, comment FFC
footprint FFC-39pos-0.3mm
pins: 1, 2, 3, 4, 5, 6, 7, 8, 9, 10, 11, 12, 13, 14, 15, 16, 17, 18, 19, 20, 21, 22, 23, 24, 25, 26, 27, 28, 29, 30, 31, 32, 33, 34, 35, 36, 37, 38, 39

## Fiducial
designator *
footprint FIDUCIAL_TOP
footprint FIDUCIAL_BOTTOM

## FPC15
designator J?
FPC connector 15pin 1mm pitch
footprint FPC15-1mm
pins: 1, 2, 3, 4, 5, 6, 7, 8, 9, 10, 11, 12, 13, 14, 15, 16 SH

## FPC22
designator J?
FPC Connector 0.5mm pitch
footprint FPC22-0.5MM (FH12-20S-0.5SH FFC-FPC pitch: 0.5mm)
pins: 1, 2, 3, 4, 5, 6, 7, 8, 9, 10, 11, 12, 13, 14, 15, 16, 17, 18, 19, 20, 21, 22, MP

## FPC-13pos
designator J?  (value not drawn)
FPC 0.3mm pitch 13pos
footprint FPC13-0.3MM
pins: 1, 2, 3, 4, 5, 6, 7, 8, 9, 10, 11, 12, 13

## FPC-39POS
designator J?
footprint FPC39-0.3MM
pins: 1, 2, 3, 4, 5, 6, 7, 8, 9, 10, 11, 12, 13, 14, 15, 16, 17, 18, 19, 20, 21, 22, 23, 24, 25, 26, 27, 28, 29, 30, 31, 32, 33, 34, 35, 36, 37, 38, 39, TAB

## FS8205A
designator U?
5A 20V N+N-Channel Enhancement Mode MOSFET
footprint TTSOP-8
pins: 1,8 D, 2,3 S1, 4 G1, 5 G2, 6,7 S2

## FS8205A-SOT
designator U?, comment FS8205A
5A 20V N+N-Channel Enhancement Mode MOSFET
footprint SOT23-6L
pins: 1 S2, 2,5 D, 3 S1, 4 G1, 6 G2

## Fuse
designator F?, comment 2A
Fuse; Amper: 2A
footprint F2410 (FUSE, 6x2.5mm)
pins: 1, 2

## GPPC-PF-1-2-EP-ST-CMM
designator J?
footprint GPPC-PF-1-2-EP-ST-CMM
pins: 1 T1, 2 T2, 3 GND

## HC-05
designator BT?
footprint HC-05
pins: 1 TX (oe), 2 RX (oe), 3 CTS (oe), 4 RTS (oe), 5 PCM_CLK (oe), 6 PCM_OUT (oe), 7 PCM_IN (oe), 8 PCM_SYNC (oe), 9 AIO0 (oe), 10 AIO1 (oe), 11 RESET (oe), 12 3.3V (oe), 13 GND (oe), 14 NC (oe), 15 USB_D- (oe), 16 CS (oe), 17 MOSI (oe), 18 MISO (oe), 19 CLK (oe), 20 USB_D+ (oe), 21 GND (oe), 22 GND (oe), 23 PIO0 (oe), 24 PIO1 (oe), 25 PIO2 (oe), 26 PIO3 (oe), 27 PIO4 (oe), 28 PIO5 (oe), 29 PIO6 (oe), 30 PIO7 (oe), 31 PIO8 (oe), 32 PIO9 (oe), 33 PIO10 (oe), 34 PIO11 (oe)

## Header
designator J?
footprint Header-2M
pins: 1 (oe), 2

## Heater
designator H?
footprint Heater-5x7
pins: 1, 2

## HLK-5M12
designator U?, comment HLK-5M
footprint HLK-5Watt
footprint HLK-3Watt
footprint HLK-MIXED 3W & 5W
pins: 1 ~AC (oe), 2 ~AC (oe), 3 DC+ (oe), 4 DC- (oe)

## HMC5883
designator U?
3-Axis Magnometer
footprint LPCC-16
pins: 1 SCL, 2 VDD, 4 S1, 8 SETP, 9 GND, 10 C1, 11 GND, 12 SETC, 13 VDDIO, 15 DRDY, 16 SDA

## HP-PCB-Card
designator S?, comment Male Power Slot
1.27 mm Male
footprint Edge-Male
pins: 1, 2, 3, 4, 5, 6, 7, 8, 9, 10, 11, 12, 13, 14, 15, 16, 17, 18, 19, 20, 21 GND, 22 +12V, 23 +12V, 24 GND
text: Bottom; Top

## HP-Pogo-Connector-Bottom
designator J?
Pogo pin connector
footprint HP-POGO-Connector-BOTTOM
pins: 1, 2, 3, 4, 5, 6, 7, 8, 9, 10, 26 GND, 27 GND, 28 GND, 29 +12V, 30 +12V
text: Bottom

## HP-Pogo-Connector-Top
designator J?
Pogo pin connector
footprint HP-Pogo-connector-TOP
pins: 11, 12, 13, 14, 15, 16, 17, 18, 19, 20, 21 +12V, 22 +12V, 23 +12V, 24 GND, 25 GND
text: Top

## HP-PowerConnector
designator J?, comment Edge connector
1.27 mm edge connector fo HP g10 powers
footprint Edge-1.27mm
pins: 1, 2, 3, 4, 5, 6, 7, 8, 9, 10, 11, 12, 13, 14, 15, 16, 17, 18, 19, 20, 21 +12V, 22 +12V, 23 +12V, 24 +12V, 25 GND, 26 GND, 27 GND, 28 GND, 29 GND, 30 GND, 31 GND, 32 +12V, 33 +12V, 34 +12V
text: Bottom; Top

## INA234
designator U?
28V 12-Bit Power Monitor with I2C
footprint YBJ0008
pins: A1 ALERT, A2 IN+, B1 A0, B2 IN-/VBUS, C1 SDA, C2 GND, D1 SCL, D2 VS

## INA236
designator U?
36V, 16-bit, ultra-precise I2C output current/voltage/power monitor with alert
footprint YBJ0008
footprint SOT23-8L; pin to pad A1>8 A2>1 B1>7 B2>2 C1>6 C2>3 D1>5 D2>4
pins: A1 ALERT, A2 IN+, B1 A0, B2 IN-/VBUS, C1 SDA, C2 GND, D1 SCL, D2 VS

## INA238
designator U?, comment INA238-Q1
85-V, 20-bit, ultra-precise, I2C output current/voltage/power/energy/charge monitor with alert
footprint VSSOP-10
pins: 1 A1, 2 A0, 3 ALERT, 4 SDA, 5 SCL, 6 VS, 7 GND, 8 VBUS, 9 IN-, 10 IN+

## INA350
designator U?
Instrumentation Amplifiers Low-power (100 uA) selectable-gain
footprint SOT23-8L
pins: 1 GS, 2 IN-, 3 IN+, 4 V-, 5 REF, 6 OUT, 7 V+, 8 ~{SHDN}

## Inductor
designator L?
footprint 7x7-inductor
footprint 6.6x6.4x4.8-INDUCTOR
footprint MLC1265
footprint MPL-AL5030
pins: 1, 2

## IPG20N06S4L
designator Q?
Dual MOSFET N-Channel 60V 20A
footprint PG-TDSON-8
pins: 1 S, 2 G, 3 S, 4 G, 5 D, 6 D
1 alternate drawing of the same symbol

## IRF7410
designator Q?
MOSFT P-Channel 12V 16A 7mOhm
footprint SOIC-8
pins: 1,2,3 S, 4 G, 5,6,7,8 D

## IRFR9024
designator Q?
P-Channel MOSFET
footprint DPAK_3 (D-PAK (TO-252), 3-Pads, Body 6.2x6.7mm)
footprint D2PAK_2 (D2PAK-3, FMG500_3_S1000)
pins: 1 G, 2 S, 3 D

## IRLML2244TR
designator Q?
MOSFT P-Channel 20V 4.3A 54mOhm
footprint SOT23
pins: 1 G, 2 S, 3 D

## Joystic
designator M?, comment Joystick
footprint JOYSTICK-MODULE-STAND
footprint JOYSTICK-MODULE-Dummy
pins: 1 GND, 2 VCC, 3 Vx, 4 Vy, 5 SW

## Jumper-2
designator J?, comment Jumper
footprint Header-2M-JUMPER
pins: 1, 2

## Jumper-3
designator J?, comment Jumper
footprint Header-3M-JUMPER
pins: 1, 2, 3

## LD3985M33R
designator U?
3.3V LDO Regulatoe
footprint SOT23-5L
pins: 1 Vin, 2 GND, 3 INH, 4 BYPASS, 5 Vout

## LED
designator D?
LED SMD; PARAM: 5mA; MANF: OSRAM; DESC: DESCRIPTION; MANF_P#: LW QH8G-Q2OO-3K5L-1; PARAM2: 2.85V; ASSEMBLY: ASSEMBLY; PRICE: PRICE
footprint LED0402WHT (LED SMD 0402, WHITE)
pins: 1 ANODE, 2 CATHODE

## LED1615GREEN/RED
designator D?
footprint LED-1615-4
pins: 1, 2, 3, 4

## LoRa Ra-02
designator U?, comment SX1278
footprint LoRa-Ra-02
pins: 1 GND (hiz), 2 NSS (in), 3 MOSI (io), 4 MISO (io), 5 SCK (io), 6 DIO5 (io), 7 DIO4 (io), 8 GND (hiz), 9 GND (hiz), 10 GND (hiz), 11 3.3V (power), 12 RST (in), 13 DIO0 (io), 14 DIO1 (io), 15 DIO2 (io), 16 DIO3 (io)
text: LoRa

## MAX11131
designator U?
Analog to Digital Converters - ADC Pin-/Software-Compatible Family of 10-/12-Bit, 8-/16-Channel, 3Msps ADCs with External Reference
footprint TQFN-28
pins: 1 AIN3, 2 AIN4, 3 AIN5, 4 AIN6, 5 AIN7, 6 AIN8, 7 AIN9, 8 AIN10, 9 AIN11, 10 AIN12, 11 AIN13, 12 AIN14/CNVST, 13 AIN15/REF-, 14 GND, 15 REF+, 16 GND, 17 VDD, 18 VDD, 19 SCLK, 20 CS, 21 MOSI/DIN, 22 DGND, 23 OVDD, 24 MISO/DOUT, 25 EOC, 26 AIN0, 27 AIN1, 28 AIN2, EP

## MAX17048
designator U?
3μA 1-Cell Fuel Gauge with ModelGauge
footprint TDFN8
pins: 1 CTG, 2 CELL, 3 VDD, 4 GND, 5 ~{ALRT}, 6 QSTR, 7 SCL, 8 SDA, 9 EP

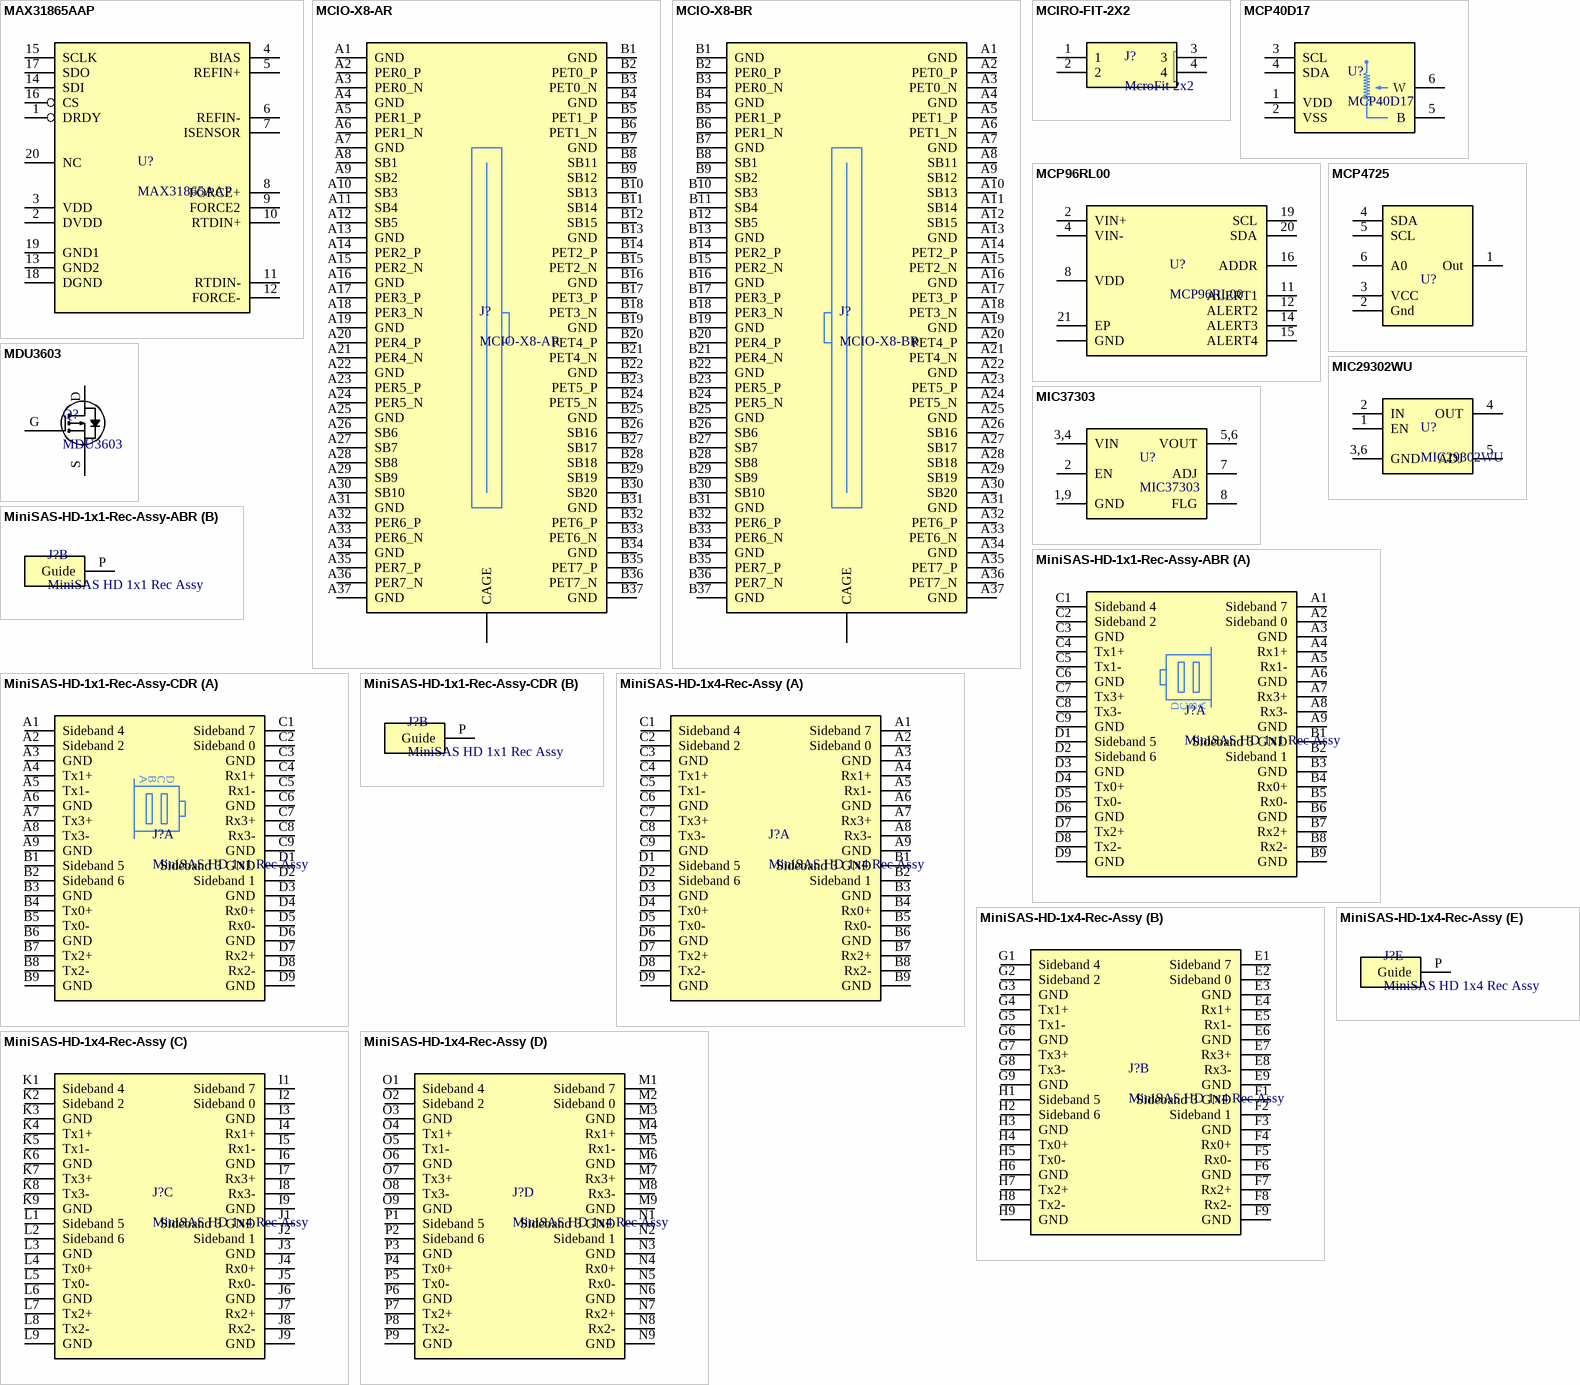
[diagram p5: symbols MAX31865AAP to MiniSAS-HD-1x4-Rec-Assy]

## MAX31865AAP
designator U?
RTD to digital converter
footprint SSOP-20
pins: 1 DRDY, 2 DVDD, 3 VDD, 4 BIAS, 5 REFIN+, 6 REFIN-, 7 ISENSOR, 8 FORCE+, 9 FORCE2, 10 RTDIN+, 11 RTDIN-, 12 FORCE-, 13 GND2, 14 SDI, 15 SCLK, 16 CS, 17 SDO, 18 DGND, 19 GND1, 20 NC

## MCIO-X8-AR
designator J?
MCIO X8 A:RX B:TX
footprint MCIO-X8-VERT
pins: A1 GND "Core Logic", A2 PER0_P "Core Logic", A3 PER0_N "Core Logic", A4 GND "Core Logic", A5 PER1_P "Core Logic", A6 PER1_N "Core Logic", A7 GND "Core Logic", A8 SB1 "Core Logic", A9 SB2 "Core Logic", A10 SB3 "Core Logic", A11 SB4 "Core Logic", A12 SB5 "Core Logic", A13 GND "Core Logic", A14 PER2_P "Core Logic", A15 PER2_N "Core Logic", A16 GND "Core Logic", A17 PER3_P "Core Logic", A18 PER3_N "Core Logic", A19 GND "Core Logic", A20 PER4_P "Core Logic", A21 PER4_N "Core Logic", A22 GND "Core Logic", A23 PER5_P "Core Logic", A24 PER5_N "Core Logic", A25 GND "Core Logic", A26 SB6 "Core Logic", A27 SB7 "Core Logic", A28 SB8 "Core Logic", A29 SB9 "Core Logic", A30 SB10 "Core Logic", A31 GND "Core Logic", A32 PER6_P "Core Logic", A33 PER6_N "Core Logic", A34 GND "Core Logic", A35 PER7_P "Core Logic", A36 PER7_N "Core Logic", A37 GND "Core Logic", B1 GND "Core Logic", B2 PET0_P "Core Logic", B3 PET0_N "Core Logic", B4 GND "Core Logic", B5 PET1_P "Core Logic", B6 PET1_N "Core Logic", B7 GND "Core Logic", B8 SB11 "Core Logic", B9 SB12 "Core Logic", B10 SB13 "Core Logic", B11 SB14 "Core Logic", B12 SB15 "Core Logic", B13 GND "Core Logic", B14 PET2_P "Core Logic", B15 PET2_N "Core Logic", B16 GND "Core Logic", B17 PET3_P "Core Logic", B18 PET3_N "Core Logic", B19 GND "Core Logic", B20 PET4_P "Core Logic", B21 PET4_N "Core Logic", B22 GND "Core Logic", B23 PET5_P "Core Logic", B24 PET5_N "Core Logic", B25 GND "Core Logic", B26 SB16 "Core Logic", B27 SB17 "Core Logic", B28 SB18 "Core Logic", B29 SB19 "Core Logic", B30 SB20 "Core Logic", B31 GND "Core Logic", B32 PET6_P "Core Logic", B33 PET6_N "Core Logic", B34 GND "Core Logic", B35 PET7_P "Core Logic", B36 PET7_N "Core Logic", B37 GND "Core Logic", G CAGE "Core Logic"

## MCIO-X8-BR
designator J?
MCIO X8 A:TX B:RX
footprint MCIO-X8-VERT
pins: A1 GND "Core Logic", A2 PET0_P "Core Logic", A3 PET0_N "Core Logic", A4 GND "Core Logic", A5 PET1_P "Core Logic", A6 PET1_N "Core Logic", A7 GND "Core Logic", A8 SB11 "Core Logic", A9 SB12 "Core Logic", A10 SB13 "Core Logic", A11 SB14 "Core Logic", A12 SB15 "Core Logic", A13 GND "Core Logic", A14 PET2_P "Core Logic", A15 PET2_N "Core Logic", A16 GND "Core Logic", A17 PET3_P "Core Logic", A18 PET3_N "Core Logic", A19 GND "Core Logic", A20 PET4_P "Core Logic", A21 PET4_N "Core Logic", A22 GND "Core Logic", A23 PET5_P "Core Logic", A24 PET5_N "Core Logic", A25 GND "Core Logic", A26 SB16 "Core Logic", A27 SB17 "Core Logic", A28 SB18 "Core Logic", A29 SB19 "Core Logic", A30 SB20 "Core Logic", A31 GND "Core Logic", A32 PET6_P "Core Logic", A33 PET6_N "Core Logic", A34 GND "Core Logic", A35 PET7_P "Core Logic", A36 PET7_N "Core Logic", A37 GND "Core Logic", B1 GND "Core Logic", B2 PER0_P "Core Logic", B3 PER0_N "Core Logic", B4 GND "Core Logic", B5 PER1_P "Core Logic", B6 PER1_N "Core Logic", B7 GND "Core Logic", B8 SB1 "Core Logic", B9 SB2 "Core Logic", B10 SB3 "Core Logic", B11 SB4 "Core Logic", B12 SB5 "Core Logic", B13 GND "Core Logic", B14 PER2_P "Core Logic", B15 PER2_N "Core Logic", B16 GND "Core Logic", B17 PER3_P "Core Logic", B18 PER3_N "Core Logic", B19 GND "Core Logic", B20 PER4_P "Core Logic", B21 PER4_N "Core Logic", B22 GND "Core Logic", B23 PER5_P "Core Logic", B24 PER5_N "Core Logic", B25 GND "Core Logic", B26 SB6 "Core Logic", B27 SB7 "Core Logic", B28 SB8 "Core Logic", B29 SB9 "Core Logic", B30 SB10 "Core Logic", B31 GND "Core Logic", B32 PER6_P "Core Logic", B33 PER6_N "Core Logic", B34 GND "Core Logic", B35 PER7_P "Core Logic", B36 PER7_N "Core Logic", B37 GND "Core Logic", G CAGE "Core Logic"

## MCIRO-FIT-2X2
designator J?, comment McroFit 2x2
4304504xx
footprint MICRO-FIT-2X2-RA
pins: 1, 2, 3, 4

## MCP40D17
designator U?
7-Bit Single I2C (with Command Code) Digital POT with Volatile Memory
footprint SOT-323
pins: 1 VDD, 2 VSS, 3 SCL, 4 SDA, 5 B, 6 W

## MCP96RL00
designator U?
Thermocouple to digital converter
footprint MQFN-20
pins: 1,3,5,6,7,9,10,17,18,13 GND, 2 VIN+, 4 VIN-, 8 VDD, 11 ALERT1, 12 ALERT2, 14 ALERT3, 15 ALERT4, 16 ADDR, 19 SCL, 20 SDA, 21 EP

## MCP4725
designator U?  (value not drawn)
12-Bit Digital-to-Analog Converter with EEPROM Memory
footprint SOT23-6L
pins: 1 Out, 2 Gnd, 3 VCC, 4 SDA, 5 SCL, 6 A0

## MDU3603
designator Q?
P-Channel MOSFET
footprint PDFN-56
pins: D, G, S

## MIC29302WU
designator U?
LDO Voltage Regulators 3.0A LDO Adj. + Shutdown
footprint TO263-5L
pins: 1 EN, 2 IN, 3,6 GND, 4 OUT, 5 ADJ

## MIC37303
designator U?
LDO Voltage Regulators 3A, Low Voltage uCap LDO Regulator
footprint SOIC-8-E
pins: 1,9 GND, 2 EN, 3,4 VIN, 5,6 VOUT, 7 ADJ, 8 FLG

## MiniSAS-HD-1x1-Rec-Assy-ABR
designator J?, comment MiniSAS HD 1x1 Rec Assy
MiniSAS HD 1x1 RCPT RECEPTACLE ASSY (AB:RX - CD:TX)
footprint MINISAS-HD-1X1-REC-ASSY
part A pins: A1 Sideband 7, A2 Sideband 0, A3 GND, A4 Rx1+, A5 Rx1-, A6 GND, A7 Rx3+, A8 Rx3-, A9 GND, B1 Sideband 3 GND, B2 Sideband 1, B3 GND, B4 Rx0+, B5 Rx0-, B6 GND, B7 Rx2+, B8 Rx2-, B9 GND, C1 Sideband 4, C2 Sideband 2, C3 GND, C4 Tx1+, C5 Tx1-, C6 GND, C7 Tx3+, C8 Tx3-, C9 GND, D1 Sideband 5, D2 Sideband 6, D3 GND, D4 Tx0+, D5 Tx0-, D6 GND, D7 Tx2+, D8 Tx2-, D9 GND
part B pins: P Guide
part A text: D; C; B; A

## MiniSAS-HD-1x1-Rec-Assy-CDR
designator J?, comment MiniSAS HD 1x1 Rec Assy
MiniSAS HD 1x1 RCPT RECEPTACLE ASSY (AB:TX - CD:RX)
footprint MINISAS-HD-1X1-REC-ASSY
part A pins: A1 Sideband 4, A2 Sideband 2, A3 GND, A4 Tx1+, A5 Tx1-, A6 GND, A7 Tx3+, A8 Tx3-, A9 GND, B1 Sideband 5, B2 Sideband 6, B3 GND, B4 Tx0+, B5 Tx0-, B6 GND, B7 Tx2+, B8 Tx2-, B9 GND, C1 Sideband 7, C2 Sideband 0, C3 GND, C4 Rx1+, C5 Rx1-, C6 GND, C7 Rx3+, C8 Rx3-, C9 GND, D1 Sideband 3 GND, D2 Sideband 1, D3 GND, D4 Rx0+, D5 Rx0-, D6 GND, D7 Rx2+, D8 Rx2-, D9 GND
part B pins: P Guide
part A text: A; B; C; D

## MiniSAS-HD-1x4-Rec-Assy
designator J?, comment MiniSAS HD 1x4 Rec Assy
MiniSAS HD 1x4 RCPT RECEPTACLE ASSY W/LP
footprint MiniSAS-HD-1x4-Rec-Assy
part A pins: A1 Sideband 7, A2 Sideband 0, A3 GND, A4 Rx1+, A5 Rx1-, A6 GND, A7 Rx3+, A8 Rx3-, A9 GND, B1 Sideband 3 GND, B2 Sideband 1, B3 GND, B4 Rx0+, B5 Rx0-, B6 GND, B7 Rx2+, B8 Rx2-, B9 GND, C1 Sideband 4, C2 Sideband 2, C3 GND, C4 Tx1+, C5 Tx1-, C6 GND, C7 Tx3+, C8 Tx3-, C9 GND, D1 Sideband 5, D2 Sideband 6, D3 GND, D4 Tx0+, D5 Tx0-, D6 GND, D7 Tx2+, D8 Tx2-, D9 GND
part B pins: E1 Sideband 7, E2 Sideband 0, E3 GND, E4 Rx1+, E5 Rx1-, E6 GND, E7 Rx3+, E8 Rx3-, E9 GND, F1 Sideband 3 GND, F2 Sideband 1, F3 GND, F4 Rx0+, F5 Rx0-, F6 GND, F7 Rx2+, F8 Rx2-, F9 GND, G1 Sideband 4, G2 Sideband 2, G3 GND, G4 Tx1+, G5 Tx1-, G6 GND, G7 Tx3+, G8 Tx3-, G9 GND, H1 Sideband 5, H2 Sideband 6, H3 GND, H4 Tx0+, H5 Tx0-, H6 GND, H7 Tx2+, H8 Tx2-, H9 GND
part C pins: I1 Sideband 7, I2 Sideband 0, I3 GND, I4 Rx1+, I5 Rx1-, I6 GND, I7 Rx3+, I8 Rx3-, I9 GND, J1 Sideband 3 GND, J2 Sideband 1, J3 GND, J4 Rx0+, J5 Rx0-, J6 GND, J7 Rx2+, J8 Rx2-, J9 GND, K1 Sideband 4, K2 Sideband 2, K3 GND, K4 Tx1+, K5 Tx1-, K6 GND, K7 Tx3+, K8 Tx3-, K9 GND, L1 Sideband 5, L2 Sideband 6, L3 GND, L4 Tx0+, L5 Tx0-, L6 GND, L7 Tx2+, L8 Tx2-, L9 GND
part D pins: M1 Sideband 7, M2 Sideband 0, M3 GND, M4 Rx1+, M5 Rx1-, M6 GND, M7 Rx3+, M8 Rx3-, M9 GND, N1 Sideband 3 GND, N2 Sideband 1, N3 GND, N4 Rx0+, N5 Rx0-, N6 GND, N7 Rx2+, N8 Rx2-, N9 GND, O1 Sideband 4, O2 Sideband 2, O3 GND, O4 Tx1+, O5 Tx1-, O6 GND, O7 Tx3+, O8 Tx3-, O9 GND, P1 Sideband 5, P2 Sideband 6, P3 GND, P4 Tx0+, P5 Tx0-, P6 GND, P7 Tx2+, P8 Tx2-, P9 GND
part E pins: P Guide

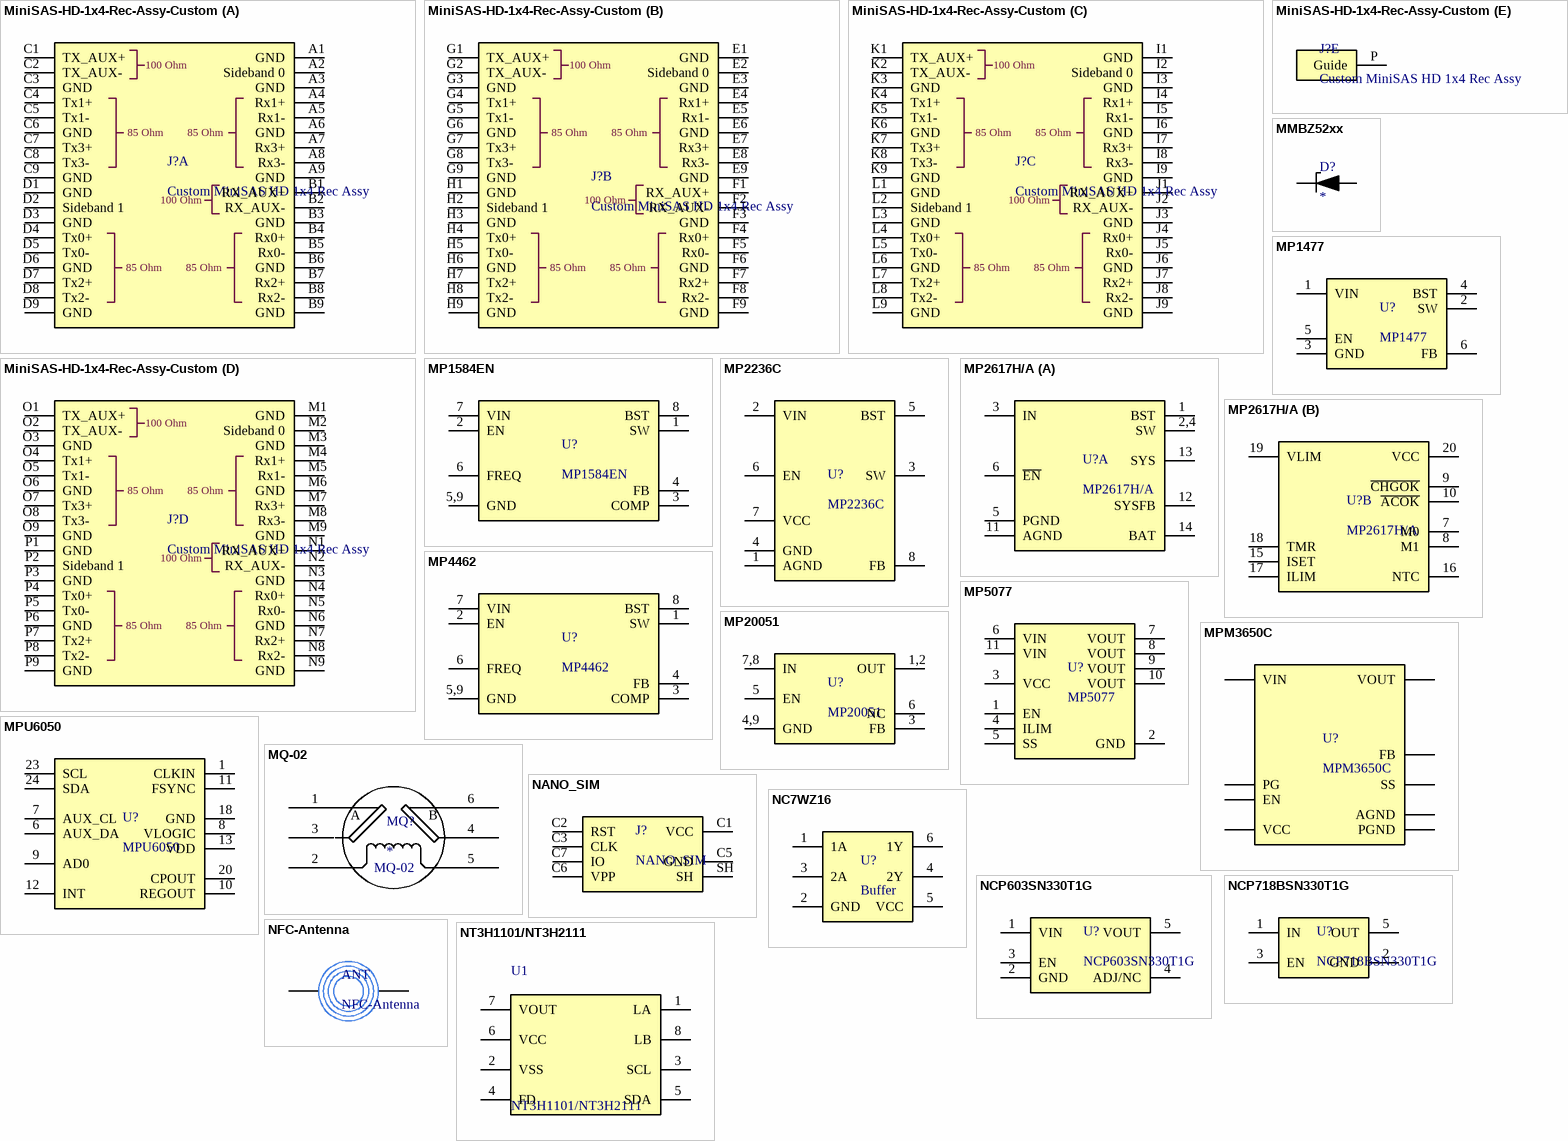
[diagram p6: symbols MiniSAS-HD-1x4-Rec-Assy-Custom to NT3H1101/NT3H2111]

## MiniSAS-HD-1x4-Rec-Assy-Custom
designator J?, comment Custom MiniSAS HD 1x4 Rec Assy
BayanRayan Customized MiniSAS HD 1x4 RCPT RECEPTACLE ASSY W/LP
footprint MiniSAS-HD-1x4-Rec-Assy
part A pins: A1 GND, A2 Sideband 0, A3 GND, A4 Rx1+, A5 Rx1-, A6 GND, A7 Rx3+, A8 Rx3-, A9 GND, B1 RX_AUX+, B2 RX_AUX-, B3 GND, B4 Rx0+, B5 Rx0-, B6 GND, B7 Rx2+, B8 Rx2-, B9 GND, C1 TX_AUX+, C2 TX_AUX-, C3 GND, C4 Tx1+, C5 Tx1-, C6 GND, C7 Tx3+, C8 Tx3-, C9 GND, D1 GND, D2 Sideband 1, D3 GND, D4 Tx0+, D5 Tx0-, D6 GND, D7 Tx2+, D8 Tx2-, D9 GND
part B pins: E1 GND, E2 Sideband 0, E3 GND, E4 Rx1+, E5 Rx1-, E6 GND, E7 Rx3+, E8 Rx3-, E9 GND, F1 RX_AUX+, F2 RX_AUX-, F3 GND, F4 Rx0+, F5 Rx0-, F6 GND, F7 Rx2+, F8 Rx2-, F9 GND, G1 TX_AUX+, G2 TX_AUX-, G3 GND, G4 Tx1+, G5 Tx1-, G6 GND, G7 Tx3+, G8 Tx3-, G9 GND, H1 GND, H2 Sideband 1, H3 GND, H4 Tx0+, H5 Tx0-, H6 GND, H7 Tx2+, H8 Tx2-, H9 GND
part C pins: I1 GND, I2 Sideband 0, I3 GND, I4 Rx1+, I5 Rx1-, I6 GND, I7 Rx3+, I8 Rx3-, I9 GND, J1 RX_AUX+, J2 RX_AUX-, J3 GND, J4 Rx0+, J5 Rx0-, J6 GND, J7 Rx2+, J8 Rx2-, J9 GND, K1 TX_AUX+, K2 TX_AUX-, K3 GND, K4 Tx1+, K5 Tx1-, K6 GND, K7 Tx3+, K8 Tx3-, K9 GND, L1 GND, L2 Sideband 1, L3 GND, L4 Tx0+, L5 Tx0-, L6 GND, L7 Tx2+, L8 Tx2-, L9 GND
part D pins: M1 GND, M2 Sideband 0, M3 GND, M4 Rx1+, M5 Rx1-, M6 GND, M7 Rx3+, M8 Rx3-, M9 GND, N1 RX_AUX+, N2 RX_AUX-, N3 GND, N4 Rx0+, N5 Rx0-, N6 GND, N7 Rx2+, N8 Rx2-, N9 GND, O1 TX_AUX+, O2 TX_AUX-, O3 GND, O4 Tx1+, O5 Tx1-, O6 GND, O7 Tx3+, O8 Tx3-, O9 GND, P1 GND, P2 Sideband 1, P3 GND, P4 Tx0+, P5 Tx0-, P6 GND, P7 Tx2+, P8 Tx2-, P9 GND
part E pins: P Guide
part A text: 100 Ohm; 85 Ohm
part B text: 100 Ohm; 85 Ohm
part C text: 100 Ohm; 85 Ohm
part D text: 100 Ohm; 85 Ohm

## MMBZ52xx
designator D?
Zener diode
footprint SOT23
pins: 1 Anode, 3 Cathode

## MP1477
designator U?
17V, 3A, 1.2MHz, High-Efficiency, Synchronous, Step-Down Converter
footprint SOT563
pins: 1 VIN "Core Logic", 2 SW "Core Logic", 3 GND "Core Logic", 4 BST "Core Logic", 5 EN "Core Logic", 6 FB "Core Logic"

## MP1584EN
designator U?
3A, 1.5MHz, 28V Step-Down Converter
footprint SOIC-8-E
pins: 1 SW, 2 EN, 3 COMP, 4 FB, 5,9 GND, 6 FREQ, 7 VIN, 8 BST

## MP2236C
designator U?
Switching Voltage Regulators High-Efficiency, 6A, 18V, Synchronous Step-Down Converter with CCM mode
footprint SOT23-8L
pins: 1 AGND, 2 VIN, 3 SW, 4 GND, 5 BST, 6 EN, 7 VCC, 8 FB

## MP2617H/A
designator U?
3A Switching Charger with NVDC Power Path Management For 4.2V Single Cell Li+ Battery
footprint QFN-20-3x4
part A pins: 1 BST, 2,4 SW, 3 IN, 5 PGND, 6 ~{EN}, 11 AGND, 12 SYSFB, 13 SYS, 14 BAT
part B pins: 7 M0, 8 M1, 9 ~{CHGOK}, 10 ~{ACOK}, 15 ISET, 16 NTC, 17 ILIM, 18 TMR, 19 VLIM, 20 VCC

## MP4462
designator U?
3.5A 4MHz 36V Step-Down Converter
footprint SOIC-8-E
pins: 1 SW, 2 EN, 3 COMP, 4 FB, 5,9 GND, 6 FREQ, 7 VIN, 8 BST

## MP5077
designator U?
5.5V, 7A Low Rdson load switch with programmable current limit; ComponentLink1Description: New link; ComponentLink1URL: https://www.digikey.com/en/products/detail/monolithic-power-systems-inc/MP5077GG-P/5298952
footprint QFN12-2x2
pins: 1 EN, 2 GND, 3 VCC, 4 ILIM, 5 SS, 6 VIN, 7 VOUT, 8 VOUT, 9 VOUT, 10 VOUT, 11 VIN

## MP20051
designator U?
Low Noise, High PSRR, 1A / Linear Regulator
footprint VSON-8pin; pin to pad 4,9>4+9
pins: 1,2 OUT "Core Logic", 3 FB "Core Logic", 4,9 GND "Core Logic", 5 EN "Core Logic", 6 NC "Core Logic", 7,8 IN "Core Logic"

## MPM3650C
designator U?
2.75 to 17V 6A 1.2MHz Ultra-Thin Synchronous Step-Down Power Module
footprint QFN-24-4x6
pins: 1,2,3,4,5,24 PGND, 6 VCC, 9,10,11,12 VOUT, 16 EN, 17 FB, 18 AGND, 19 SS, 20,21 PG, 22 VIN

## MPU6050
designator U?
IMU ACCEL/GYRO 3-AXIS I2C 24QFN
footprint QFN-24TA (RTW, RGE S-PQFP-N24 (TI), HVQFN24, 4X4mm, 0.5mm)
pins: 1 CLKIN, 6 AUX_DA, 7 AUX_CL, 8 VLOGIC, 9 AD0, 10 REGOUT, 11 FSYNC, 12 INT, 13 VDD, 18 GND, 20 CPOUT, 23 SCL, 24 SDA

## MQ-02
designator MQ?
Gas sensor
footprint MQ-Series
pins: 1 9, 2 11, 3 10, 4 gg, 5 gg, 6 gg
text: A; B

## NANO_SIM
designator J?
Nano SIM card holder
footprint SIM_NANO_1
pins: C1 VCC, C2 RST, C3 CLK, C5 GND, C6 VPP, C7 IO, SH

## NC7WZ16
designator U?, comment Buffer
NC7WZ16 is high-speed bufferr gate
footprint SOT23-6L
pins: 1 1A, 2 GND, 3 2A, 4 2Y, 5 VCC, 6 1Y

## NCP603SN330T1G
designator U?
LDO Voltage Regulators 300mA CMOS LDO REG WITH ENABLE
footprint SOT23-5L
pins: 1 VIN, 2 GND, 3 EN, 4 ADJ/NC, 5 VOUT

## NCP718BSN330T1G
designator U?
LDO Voltage Regulators 300 MA LOW IQ WIDE INPUT 3.3V
footprint SOT23-5L
pins: 1 IN, 2 GND, 3 EN, 5 OUT

## NFC-Antenna
designator ANT
footprint NFC-ANTENNA1
pins: 1, 2

## NT3H1101/NT3H2111
designator U1
NTAG I2C plus: NFC Forum T2T with I2C interface, password protection and energy harvesting
footprint XQFN8
pins: 1 LA, 2 VSS, 3 SCL, 4 FD, 5 SDA, 6 VCC, 7 VOUT, 8 LB

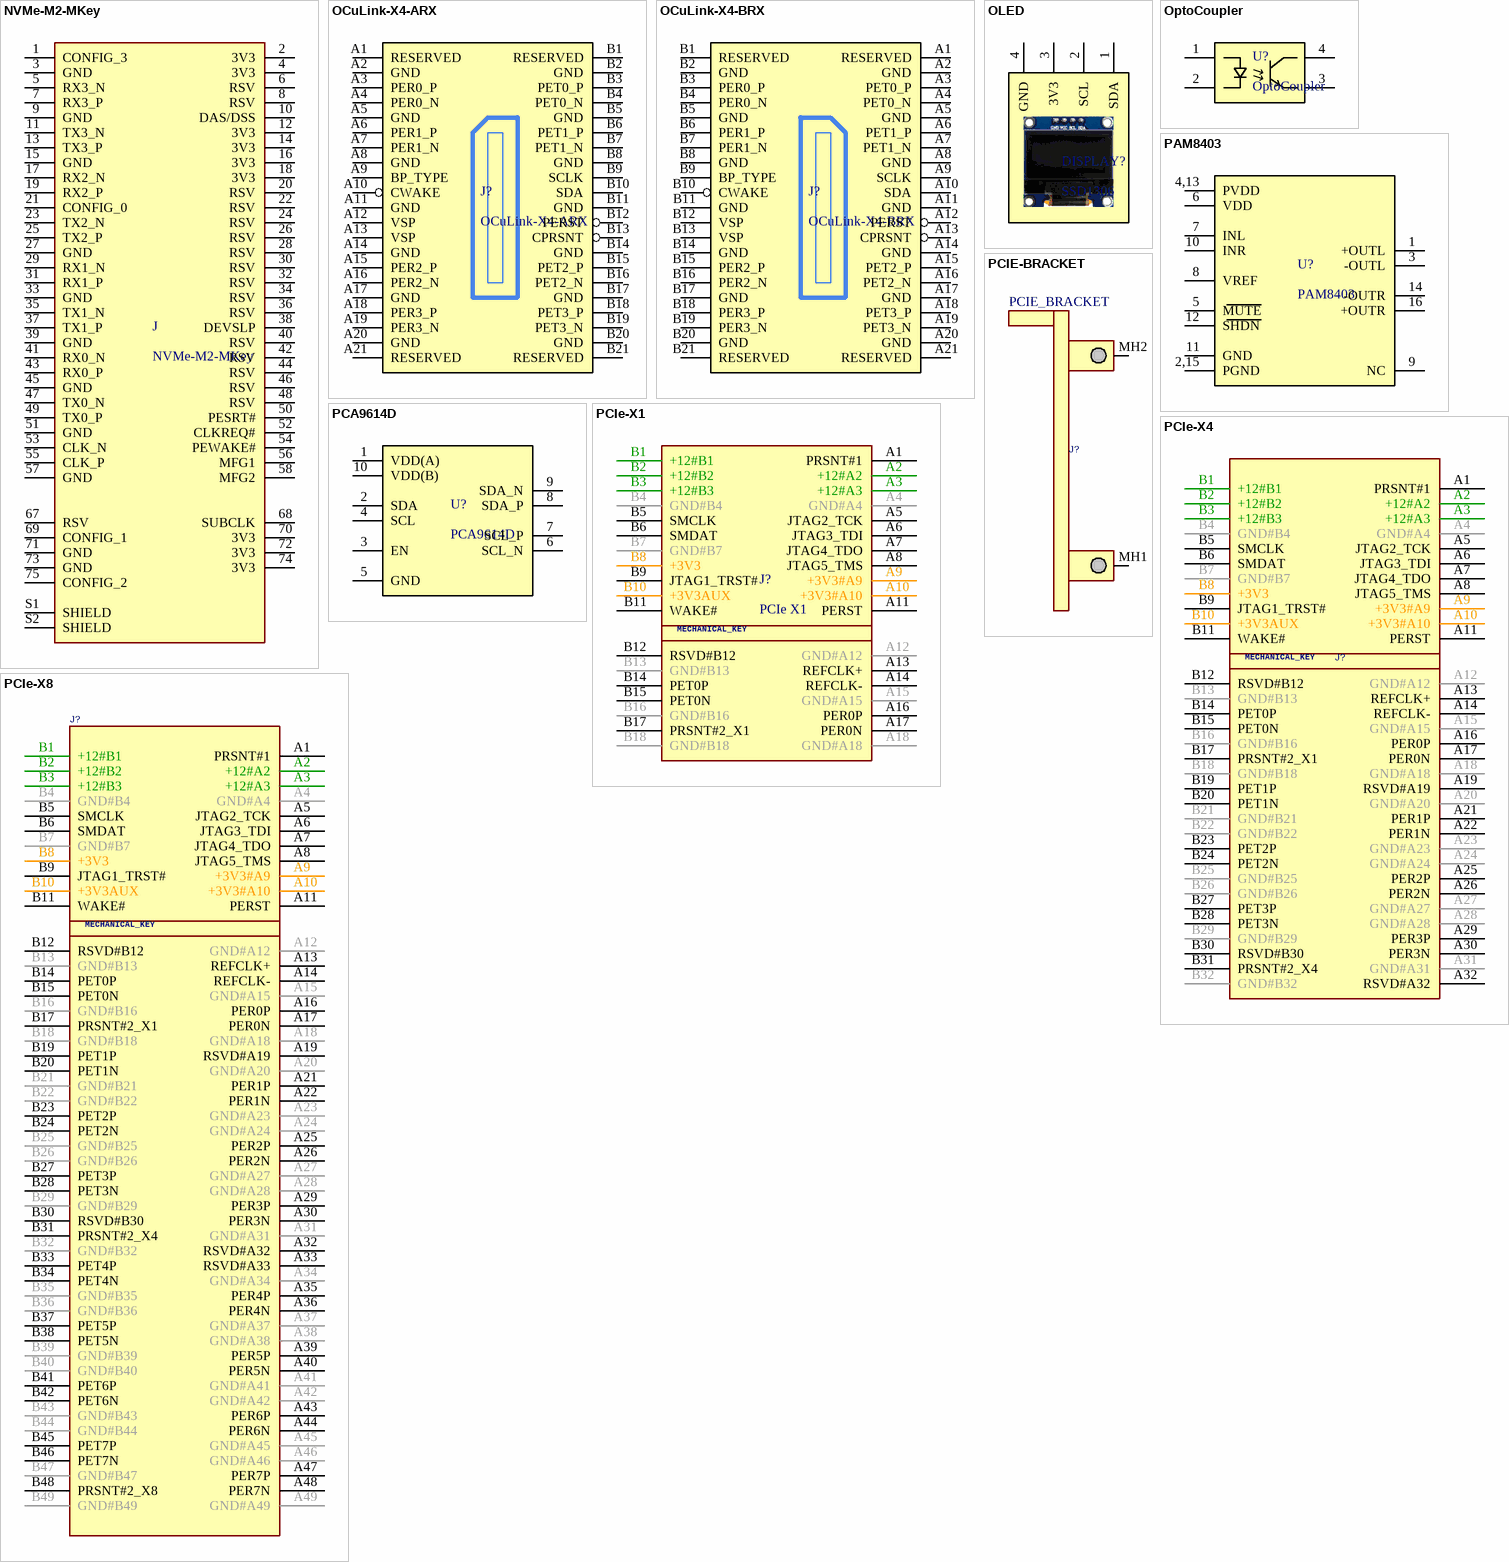
[diagram p7: symbols NVMe-M2-MKey to PCIe-X8]

## NVMe-M2-MKey
designator J
M.2 M-Key; MP: 1-2199119-6; MF: TE Connectivity; Package: None; Value: *; SnapEDA_Link: https://www.snapeda.com/parts/1-2199119-6/TE%20Connectivity%20AMP%20Connectors/view-part/2754475/?ref=snap; Price: None; Availability: Unavailable
footprint TE_1-2199119-6
footprint TE_1-2199119-6-NVMe
pins: 1 CONFIG_3, 2 3V3, 3 GND, 4 3V3, 5 RX3_N, 6 RSV, 7 RX3_P, 8 RSV, 9 GND, 10 DAS/DSS, 11 TX3_N, 12 3V3, 13 TX3_P, 14 3V3, 15 GND, 16 3V3, 17 RX2_N, 18 3V3, 19 RX2_P, 20 RSV, 21 CONFIG_0, 22 RSV, 23 TX2_N, 24 RSV, 25 TX2_P, 26 RSV, 27 GND, 28 RSV, 29 RX1_N, 30 RSV, 31 RX1_P, 32 RSV, 33 GND, 34 RSV, 35 TX1_N, 36 RSV, 37 TX1_P, 38 DEVSLP, 39 GND, 40 RSV, 41 RX0_N, 42 RSV, 43 RX0_P, 44 RSV, 45 GND, 46 RSV, 47 TX0_N, 48 RSV, 49 TX0_P, 50 PESRT#, 51 GND, 52 CLKREQ#, 53 CLK_N, 54 PEWAKE#, 55 CLK_P, 56 MFG1, 57 GND, 58 MFG2, 67 RSV, 68 SUBCLK, 69 CONFIG_1, 70 3V3, 71 GND, 72 3V3, 73 GND, 74 3V3, 75 CONFIG_2, S1 SHIELD, S2 SHIELD

## OCuLink-X4-ARX
designator J?
footprint OCULINK-REC-R/A-SMT
pins: A1 RESERVED "Core Logic", A2 GND "Core Logic", A3 PER0_P "Core Logic", A4 PER0_N "Core Logic", A5 GND "Core Logic", A6 PER1_P "Core Logic", A7 PER1_N "Core Logic", A8 GND "Core Logic", A9 BP_TYPE "Core Logic", A10 CWAKE "Core Logic", A11 GND "Core Logic", A12 VSP "Core Logic", A13 VSP "Core Logic", A14 GND "Core Logic", A15 PER2_P "Core Logic", A16 PER2_N "Core Logic", A17 GND "Core Logic", A18 PER3_P "Core Logic", A19 PER3_N "Core Logic", A20 GND "Core Logic", A21 RESERVED "Core Logic", B1 RESERVED "Core Logic", B2 GND "Core Logic", B3 PET0_P "Core Logic", B4 PET0_N "Core Logic", B5 GND "Core Logic", B6 PET1_P "Core Logic", B7 PET1_N "Core Logic", B8 GND "Core Logic", B9 SCLK "Core Logic", B10 SDA "Core Logic", B11 GND "Core Logic", B12 PERST "Core Logic", B13 CPRSNT "Core Logic", B14 GND "Core Logic", B15 PET2_P "Core Logic", B16 PET2_N "Core Logic", B17 GND "Core Logic", B18 PET3_P "Core Logic", B19 PET3_N "Core Logic", B20 GND "Core Logic", B21 RESERVED "Core Logic"

## OCuLink-X4-BRX
designator J?
footprint OCULINK-REC-R/A-SMT
pins: A1 RESERVED "Core Logic", A2 GND "Core Logic", A3 PET0_P "Core Logic", A4 PET0_N "Core Logic", A5 GND "Core Logic", A6 PET1_P "Core Logic", A7 PET1_N "Core Logic", A8 GND "Core Logic", A9 SCLK "Core Logic", A10 SDA "Core Logic", A11 GND "Core Logic", A12 PERST "Core Logic", A13 CPRSNT "Core Logic", A14 GND "Core Logic", A15 PET2_P "Core Logic", A16 PET2_N "Core Logic", A17 GND "Core Logic", A18 PET3_P "Core Logic", A19 PET3_N "Core Logic", A20 GND "Core Logic", A21 RESERVED "Core Logic", B1 RESERVED "Core Logic", B2 GND "Core Logic", B3 PER0_P "Core Logic", B4 PER0_N "Core Logic", B5 GND "Core Logic", B6 PER1_P "Core Logic", B7 PER1_N "Core Logic", B8 GND "Core Logic", B9 BP_TYPE "Core Logic", B10 CWAKE "Core Logic", B11 GND "Core Logic", B12 VSP "Core Logic", B13 VSP "Core Logic", B14 GND "Core Logic", B15 PER2_P "Core Logic", B16 PER2_N "Core Logic", B17 GND "Core Logic", B18 PER3_P "Core Logic", B19 PER3_N "Core Logic", B20 GND "Core Logic", B21 RESERVED "Core Logic"

## OLED
designator DISPLAY?, comment SSD1306
OLED SSD1306
footprint OLED-1.3
pins: 1 SDA, 2 SCL, 3 3V3, 4 GND